# Altium integrated library Motorola Microcontroller 8-Bit.IntLib: 909 symbols (part 12 of 31)
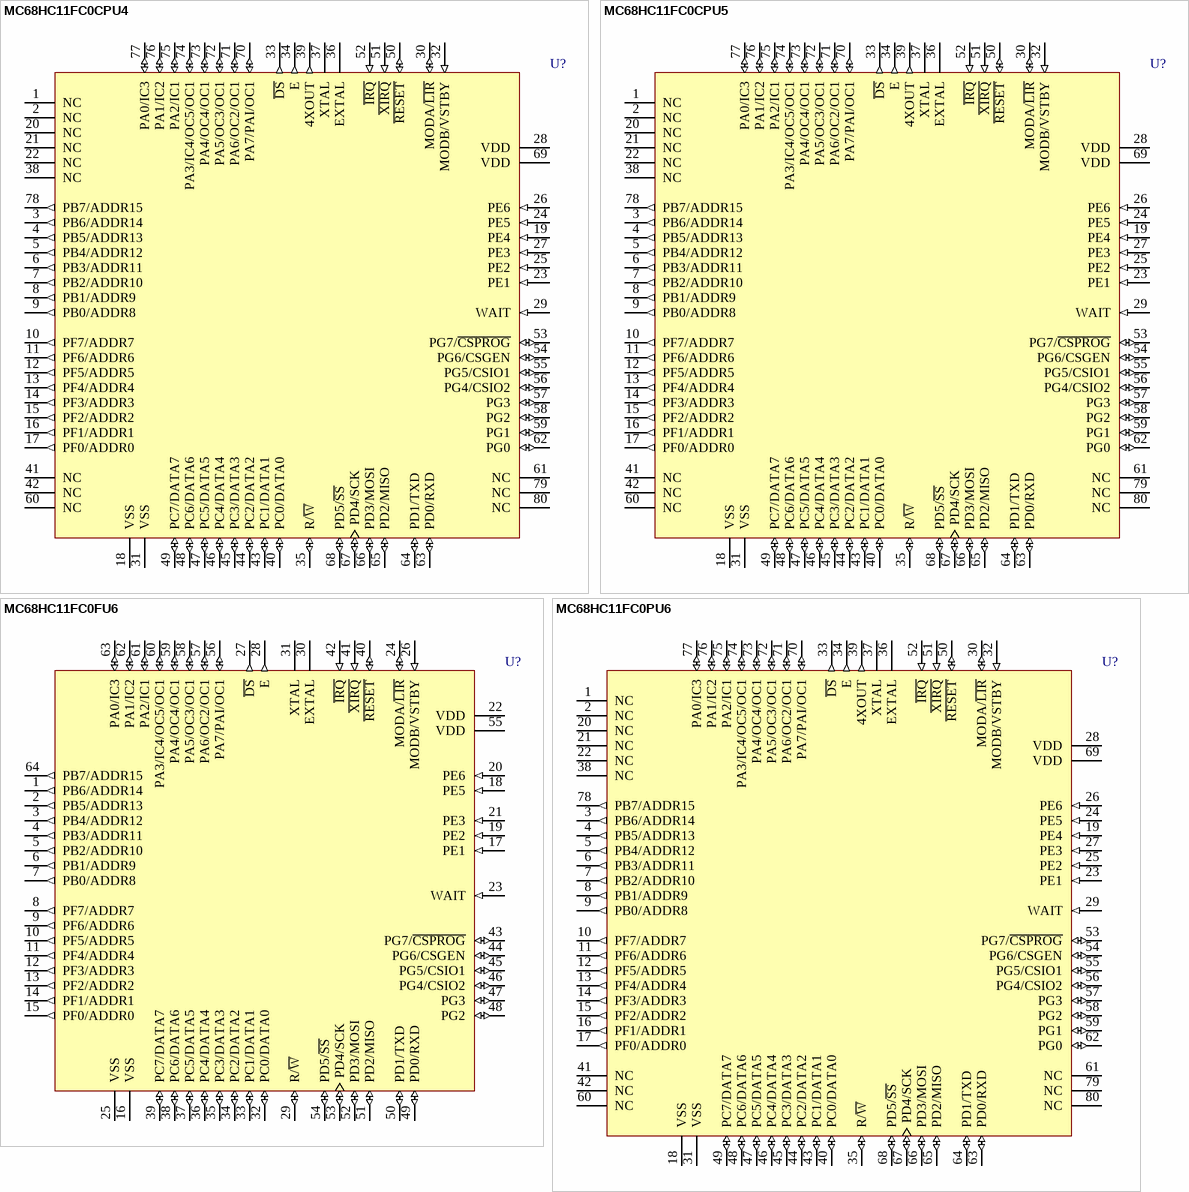
[diagram p124: symbols MC68HC11FC0CPU4 to MC68HC11FC0PU6]

## MC68HC11FC0CPU4
designator U?
8-Bit Microcontroller; Published: 17-Jan-2003; LatestRevisionDate: 13-Apr-2006; LatestRevisionNote: IPC-7351 Footprint Added.; DatasheetVersion: 10-Jan-1997; PackageVersion: 2000; PackageReference: 841B; Publisher: Altium Limited; PackageDescription: 80-Pin Plastic Quad Flat Pack 0.65 mm Pitch; Code_IPC: QFP65P1720X1720-80; ComponentLink1Description: Manufacturer Link; ComponentLink1URL: http://www.freescale.com/
footprint 841B_N (QFP, 80-Leads, Body 14 x 14mm, Pitch 0.65mm, IPC Medium Density)
footprint 841B_L (QFP, 80-Leads, Body 14 x 14mm, Pitch 0.65mm, IPC High Density)
footprint 841B_M (QFP, 80-Leads, Body 14 x 14mm, Pitch 0.65mm, IPC Low Density)
3D model MC68HC11-841B (80-Pin Plastic Quad Flat Pack 0.65 mm Pitch)
pins: 1 NC, 2 NC, 3 PB6/ADDR14 (out), 4 PB5/ADDR13 (out), 5 PB4/ADDR12 (out), 6 PB3/ADDR11 (out), 7 PB2/ADDR10 (out), 8 PB1/ADDR9 (out), 9 PB0/ADDR8 (out), 10 PF7/ADDR7 (out), 11 PF6/ADDR6 (out), 12 PF5/ADDR5 (out), 13 PF4/ADDR4 (out), 14 PF3/ADDR3 (out), 15 PF2/ADDR2 (out), 16 PF1/ADDR1 (out), 17 PF0/ADDR0 (out), 18 VSS (power), 19 PE4 (in), 20 NC, 21 NC, 22 NC, 23 PE1 (in), 24 PE5 (in), 25 PE2 (in), 26 PE6 (in), 27 PE3 (in), 28 VDD (power), 29 WAIT (in), 30 MODA/~{LIR} (io), 31 VSS (power), 32 MODB/VSTBY (in), 33 ~{DS} (out), 34 E (out), 35 R/~{W} (io), 36 EXTAL, 37 XTAL, 38 NC, 39 4XOUT (out), 40 PC0/DATA0 (io), 41 NC, 42 NC, 43 PC1/DATA1 (io), 44 PC2/DATA2 (io), 45 PC3/DATA3 (io), 46 PC4/DATA4 (io), 47 PC5/DATA5 (io), 48 PC6/DATA6 (io), 49 PC7/DATA7 (io), 50 ~{RESET} (io), 51 ~{XIRQ} (in), 52 ~{IRQ} (in), 53 PG7/~{CSPROG} (io), 54 PG6/CSGEN (io), 55 PG5/CSIO1 (io), 56 PG4/CSIO2 (io), 57 PG3 (io), 58 PG2 (io), 59 PG1 (io), 60 NC, 61 NC, 62 PG0 (io), 63 PD0/RXD (io), 64 PD1/TXD (io), 65 PD2/MISO (io), 66 PD3/MOSI (io), 67 PD4/SCK (io), 68 PD5/~{SS} (io), 69 VDD (power), 70 PA7/PAI/OC1 (io), 71 PA6/OC2/OC1 (io), 72 PA5/OC3/OC1 (io), 73 PA4/OC4/OC1 (io), 74 PA3/IC4/OC5/OC1 (io), 75 PA2/IC1 (io), 76 PA1/IC2 (io), 77 PA0/IC3 (io), 78 PB7/ADDR15 (out), 79 NC, 80 NC

## MC68HC11FC0CPU5
designator U?
8-Bit Microcontroller; Published: 17-Jan-2003; LatestRevisionDate: 13-Apr-2006; LatestRevisionNote: IPC-7351 Footprint Added.; DatasheetVersion: 10-Jan-1997; PackageVersion: 2000; PackageReference: 841B; Publisher: Altium Limited; PackageDescription: 80-Pin Plastic Quad Flat Pack 0.65 mm Pitch; Code_IPC: QFP65P1720X1720-80; ComponentLink1Description: Manufacturer Link; ComponentLink1URL: http://www.freescale.com/
footprint 841B_N (QFP, 80-Leads, Body 14 x 14mm, Pitch 0.65mm, IPC Medium Density)
footprint 841B_L (QFP, 80-Leads, Body 14 x 14mm, Pitch 0.65mm, IPC High Density)
footprint 841B_M (QFP, 80-Leads, Body 14 x 14mm, Pitch 0.65mm, IPC Low Density)
3D model MC68HC11-841B (80-Pin Plastic Quad Flat Pack 0.65 mm Pitch)
pins: 1 NC, 2 NC, 3 PB6/ADDR14 (out), 4 PB5/ADDR13 (out), 5 PB4/ADDR12 (out), 6 PB3/ADDR11 (out), 7 PB2/ADDR10 (out), 8 PB1/ADDR9 (out), 9 PB0/ADDR8 (out), 10 PF7/ADDR7 (out), 11 PF6/ADDR6 (out), 12 PF5/ADDR5 (out), 13 PF4/ADDR4 (out), 14 PF3/ADDR3 (out), 15 PF2/ADDR2 (out), 16 PF1/ADDR1 (out), 17 PF0/ADDR0 (out), 18 VSS (power), 19 PE4 (in), 20 NC, 21 NC, 22 NC, 23 PE1 (in), 24 PE5 (in), 25 PE2 (in), 26 PE6 (in), 27 PE3 (in), 28 VDD (power), 29 WAIT (in), 30 MODA/~{LIR} (io), 31 VSS (power), 32 MODB/VSTBY (in), 33 ~{DS} (out), 34 E (out), 35 R/~{W} (io), 36 EXTAL, 37 XTAL, 38 NC, 39 4XOUT (out), 40 PC0/DATA0 (io), 41 NC, 42 NC, 43 PC1/DATA1 (io), 44 PC2/DATA2 (io), 45 PC3/DATA3 (io), 46 PC4/DATA4 (io), 47 PC5/DATA5 (io), 48 PC6/DATA6 (io), 49 PC7/DATA7 (io), 50 ~{RESET} (io), 51 ~{XIRQ} (in), 52 ~{IRQ} (in), 53 PG7/~{CSPROG} (io), 54 PG6/CSGEN (io), 55 PG5/CSIO1 (io), 56 PG4/CSIO2 (io), 57 PG3 (io), 58 PG2 (io), 59 PG1 (io), 60 NC, 61 NC, 62 PG0 (io), 63 PD0/RXD (io), 64 PD1/TXD (io), 65 PD2/MISO (io), 66 PD3/MOSI (io), 67 PD4/SCK (io), 68 PD5/~{SS} (io), 69 VDD (power), 70 PA7/PAI/OC1 (io), 71 PA6/OC2/OC1 (io), 72 PA5/OC3/OC1 (io), 73 PA4/OC4/OC1 (io), 74 PA3/IC4/OC5/OC1 (io), 75 PA2/IC1 (io), 76 PA1/IC2 (io), 77 PA0/IC3 (io), 78 PB7/ADDR15 (out), 79 NC, 80 NC

## MC68HC11FC0FU6
designator U?
8-Bit Microcontroller; Published: 17-Jan-2003; LatestRevisionDate: 13-Apr-2006; LatestRevisionNote: IPC-7351 Footprint Added.; DatasheetVersion: 10-Jan-1997; PackageVersion: rev4, Jul-2002; PackageReference: 840C; Publisher: Altium Limited; PackageDescription: 64-Pin Quad Flat Pack 0.8 mm Pitch; ComponentLink1Description: Manufacturer Link; ComponentLink1URL: http://www.freescale.com/
footprint 840C_N (QFP, 64-Leads, Body 14x14mm, Pitch 0.8mm, IPC Medium Density)
footprint 840C_L (QFP, 64-Leads, Body 14x14mm, Pitch 0.8mm, IPC High Density)
footprint 840C_M (QFP, 64-Leads, Body 14x14mm, Pitch 0.8mm, IPC Low Density)
3D model MC68HC11-840C (64-Pin Quad Flat Pack 0.8 mm Pitch)
pins: 1 PB6/ADDR14 (out), 2 PB5/ADDR13 (out), 3 PB4/ADDR12 (out), 4 PB3/ADDR11 (out), 5 PB2/ADDR10 (out), 6 PB1/ADDR9 (out), 7 PB0/ADDR8 (out), 8 PF7/ADDR7 (out), 9 PF6/ADDR6 (out), 10 PF5/ADDR5 (out), 11 PF4/ADDR4 (out), 12 PF3/ADDR3 (out), 13 PF2/ADDR2 (out), 14 PF1/ADDR1 (out), 15 PF0/ADDR0 (out), 16 VSS (power), 17 PE1 (in), 18 PE5 (in), 19 PE2 (in), 20 PE6 (in), 21 PE3 (in), 22 VDD (power), 23 WAIT (in), 24 MODA/~{LIR} (io), 25 VSS (power), 26 MODB/VSTBY (in), 27 ~{DS} (out), 28 E (out), 29 R/~{W} (io), 30 EXTAL, 31 XTAL, 32 PC0/DATA0 (io), 33 PC1/DATA1 (io), 34 PC2/DATA2 (io), 35 PC3/DATA3 (io), 36 PC4/DATA4 (io), 37 PC5/DATA5 (io), 38 PC6/DATA6 (io), 39 PC7/DATA7 (io), 40 ~{RESET} (io), 41 ~{XIRQ} (in), 42 ~{IRQ} (in), 43 PG7/~{CSPROG} (io), 44 PG6/CSGEN (io), 45 PG5/CSIO1 (io), 46 PG4/CSIO2 (io), 47 PG3 (io), 48 PG2 (io), 49 PD0/RXD (io), 50 PD1/TXD (io), 51 PD2/MISO (io), 52 PD3/MOSI (io), 53 PD4/SCK (io), 54 PD5/~{SS} (io), 55 VDD (power), 56 PA7/PAI/OC1 (io), 57 PA6/OC2/OC1 (io), 58 PA5/OC3/OC1 (io), 59 PA4/OC4/OC1 (io), 60 PA3/IC4/OC5/OC1 (io), 61 PA2/IC1 (io), 62 PA1/IC2 (io), 63 PA0/IC3 (io), 64 PB7/ADDR15 (out)

## MC68HC11FC0PU6
designator U?
8-Bit Microcontroller; Published: 17-Jan-2003; LatestRevisionDate: 13-Apr-2006; LatestRevisionNote: IPC-7351 Footprint Added.; DatasheetVersion: 10-Jan-1997; PackageVersion: 2000; PackageReference: 841B; Publisher: Altium Limited; PackageDescription: 80-Pin Plastic Quad Flat Pack 0.65 mm Pitch; Code_IPC: QFP65P1720X1720-80; ComponentLink1Description: Manufacturer Link; ComponentLink1URL: http://www.freescale.com/
footprint 841B_N (QFP, 80-Leads, Body 14 x 14mm, Pitch 0.65mm, IPC Medium Density)
footprint 841B_L (QFP, 80-Leads, Body 14 x 14mm, Pitch 0.65mm, IPC High Density)
footprint 841B_M (QFP, 80-Leads, Body 14 x 14mm, Pitch 0.65mm, IPC Low Density)
3D model MC68HC11-841B (80-Pin Plastic Quad Flat Pack 0.65 mm Pitch)
pins: 1 NC, 2 NC, 3 PB6/ADDR14 (out), 4 PB5/ADDR13 (out), 5 PB4/ADDR12 (out), 6 PB3/ADDR11 (out), 7 PB2/ADDR10 (out), 8 PB1/ADDR9 (out), 9 PB0/ADDR8 (out), 10 PF7/ADDR7 (out), 11 PF6/ADDR6 (out), 12 PF5/ADDR5 (out), 13 PF4/ADDR4 (out), 14 PF3/ADDR3 (out), 15 PF2/ADDR2 (out), 16 PF1/ADDR1 (out), 17 PF0/ADDR0 (out), 18 VSS (power), 19 PE4 (in), 20 NC, 21 NC, 22 NC, 23 PE1 (in), 24 PE5 (in), 25 PE2 (in), 26 PE6 (in), 27 PE3 (in), 28 VDD (power), 29 WAIT (in), 30 MODA/~{LIR} (io), 31 VSS (power), 32 MODB/VSTBY (in), 33 ~{DS} (out), 34 E (out), 35 R/~{W} (io), 36 EXTAL, 37 XTAL, 38 NC, 39 4XOUT (out), 40 PC0/DATA0 (io), 41 NC, 42 NC, 43 PC1/DATA1 (io), 44 PC2/DATA2 (io), 45 PC3/DATA3 (io), 46 PC4/DATA4 (io), 47 PC5/DATA5 (io), 48 PC6/DATA6 (io), 49 PC7/DATA7 (io), 50 ~{RESET} (io), 51 ~{XIRQ} (in), 52 ~{IRQ} (in), 53 PG7/~{CSPROG} (io), 54 PG6/CSGEN (io), 55 PG5/CSIO1 (io), 56 PG4/CSIO2 (io), 57 PG3 (io), 58 PG2 (io), 59 PG1 (io), 60 NC, 61 NC, 62 PG0 (io), 63 PD0/RXD (io), 64 PD1/TXD (io), 65 PD2/MISO (io), 66 PD3/MOSI (io), 67 PD4/SCK (io), 68 PD5/~{SS} (io), 69 VDD (power), 70 PA7/PAI/OC1 (io), 71 PA6/OC2/OC1 (io), 72 PA5/OC3/OC1 (io), 73 PA4/OC4/OC1 (io), 74 PA3/IC4/OC5/OC1 (io), 75 PA2/IC1 (io), 76 PA1/IC2 (io), 77 PA0/IC3 (io), 78 PB7/ADDR15 (out), 79 NC, 80 NC

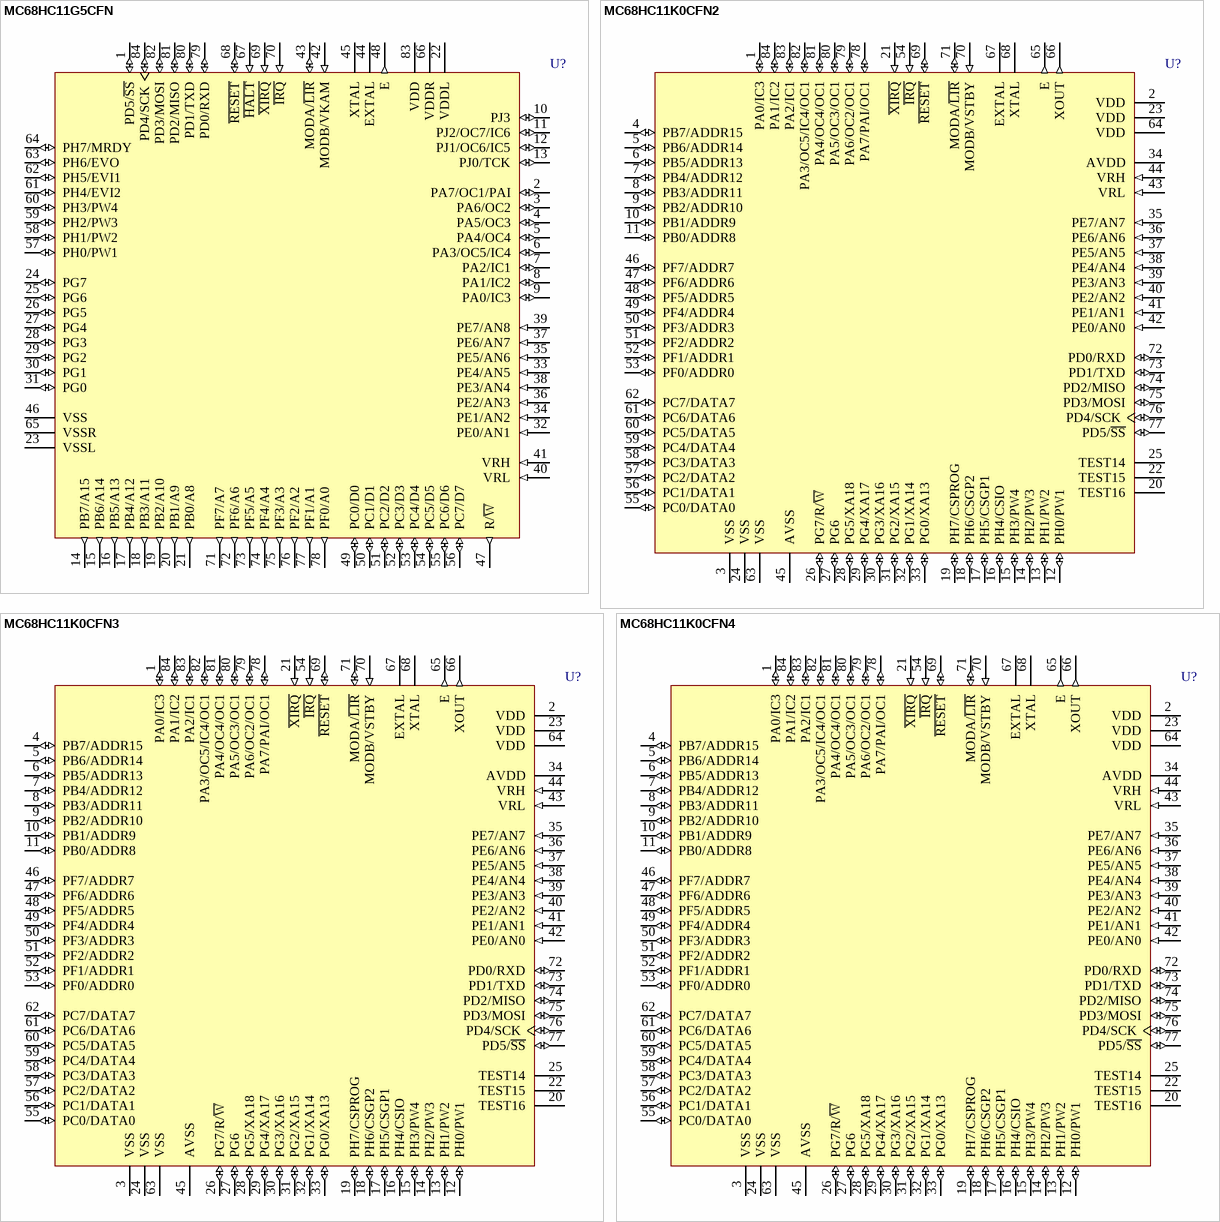
[diagram p36: symbols MC68HC11G5CFN to MC68HC11K0CFN4]

## MC68HC11G5CFN
designator U?
8-Bit Microcontroller; Published: 17-Jan-2003; LatestRevisionDate: 13-Apr-2006; LatestRevisionNote: IPC-7351 Footprint Added.; DatasheetVersion: 11-Apr-1997; PackageVersion: 1996; PackageReference: 780-01; Publisher: Altium Limited; PackageDescription: 84-Pin Leaded Chip Carrier 1.27 mm Pitch; Code_IPC: PLCC-84; ComponentLink1Description: Manufacturer Link; ComponentLink1URL: http://www.freescale.com/
footprint 780-01_N (Leaded Chip Carrier, 84-Leads, Body 29.3x29.3mm, Pitch 1.27mm, IPC Medium Density)
footprint 780-01_L (Leaded Chip Carrier, 84-Leads, Body 29.3x29.3mm, Pitch 1.27mm, IPC High Density)
footprint 780-01_M (Leaded Chip Carrier, 84-Leads, Body 29.3x29.3mm, Pitch 1.27mm, IPC Low Density)
3D model MC68HC11-780-01 (84-Pin Leaded Chip Carrier 1.27 mm Pitch)
pins: 1 PD5/~{SS} (io), 2 PA7/OC1/PAI (io), 3 PA6/OC2 (io), 4 PA5/OC3 (io), 5 PA4/OC4 (io), 6 PA3/OC5/IC4 (io), 7 PA2/IC1 (io), 8 PA1/IC2 (io), 9 PA0/IC3 (io), 10 PJ3 (io), 11 PJ2/OC7/IC6 (io), 12 PJ1/OC6/IC5 (io), 13 PJ0/TCK (io), 14 PB7/A15 (out), 15 PB6/A14 (out), 16 PB5/A13 (out), 17 PB4/A12 (out), 18 PB3/A11 (out), 19 PB2/A10 (out), 20 PB1/A9 (out), 21 PB0/A8 (out), 22 VDDL (power), 23 VSSL (power), 24 PG7 (io), 25 PG6 (io), 26 PG5 (io), 27 PG4 (io), 28 PG3 (io), 29 PG2 (io), 30 PG1 (io), 31 PG0 (io), 32 PE0/AN1 (in), 33 PE4/AN5 (in), 34 PE1/AN2 (in), 35 PE5/AN6 (in), 36 PE2/AN3 (in), 37 PE6/AN7 (in), 38 PE3/AN4 (in), 39 PE7/AN8 (in), 40 VRL (in), 41 VRH (in), 42 MODB/VKAM (in), 43 MODA/~{LIR} (io), 44 EXTAL, 45 XTAL, 46 VSS (power), 47 R/~{W} (out), 48 E (out), 49 PC0/D0 (io), 50 PC1/D1 (io), 51 PC2/D2 (io), 52 PC3/D3 (io), 53 PC4/D4 (io), 54 PC5/D5 (io), 55 PC6/D6 (io), 56 PC7/D7 (io), 57 PH0/PW1 (io), 58 PH1/PW2 (io), 59 PH2/PW3 (io), 60 PH3/PW4 (io), 61 PH4/EVI2 (io), 62 PH5/EVI1 (io), 63 PH6/EVO (io), 64 PH7/MRDY (io), 65 VSSR (power), 66 VDDR (power), 67 ~{HALT} (in), 68 ~{RESET} (io), 69 ~{XIRQ} (in), 70 ~{IRQ} (in), 71 PF7/A7 (out), 72 PF6/A6 (out), 73 PF5/A5 (out), 74 PF4/A4 (out), 75 PF3/A3 (out), 76 PF2/A2 (out), 77 PF1/A1 (out), 78 PF0/A0 (out), 79 PD0/RXD (io), 80 PD1/TXD (io), 81 PD2/MISO (io), 82 PD3/MOSI (io), 83 VDD (power), 84 PD4/SCK (io)

## MC68HC11K0CFN2
designator U?
8-Bit Microcontroller; Note: Pins 20, 22 and 25 are used only during factory testing. Do not connect to external circuitry.; Published: 17-Jan-2003; LatestRevisionDate: 13-Apr-2006; LatestRevisionNote: IPC-7351 Footprint Added.; DatasheetVersion: Nov-2001; PackageVersion: 2001; PackageReference: 780; Publisher: Altium Limited; PackageDescription: 84-Pin Plastic Leaded Chip Carrier 1.27 mm Pitch; Code_IPC: PLCC-84; ComponentLink1Description: Manufacturer Link; ComponentLink1URL: http://www.freescale.com/
footprint 780_N (Leaded Chip Carrier, 84-Leads, Body 29.3x29.3mm, Pitch 1.27mm, IPC Medium Density)
footprint 780_L (Leaded Chip Carrier, 84-Leads, Body 29.3x29.3mm, Pitch 1.27mm, IPC High Density)
footprint 780_M (Leaded Chip Carrier, 84-Leads, Body 29.3x29.3mm, Pitch 1.27mm, IPC Low Density)
3D model MC68HC11-780 (84-Pin Plastic Leaded Chip Carrier 1.27 mm Pitch)
pins: 1 PA0/IC3 (io), 2 VDD (power), 3 VSS (power), 4 PB7/ADDR15 (io), 5 PB6/ADDR14 (io), 6 PB5/ADDR13 (io), 7 PB4/ADDR12 (io), 8 PB3/ADDR11 (io), 9 PB2/ADDR10 (io), 10 PB1/ADDR9 (io), 11 PB0/ADDR8 (io), 12 PH0/PW1 (io), 13 PH1/PW2 (io), 14 PH2/PW3 (io), 15 PH3/PW4 (io), 16 PH4/CSIO (io), 17 PH5/CSGP1 (io), 18 PH6/CSGP2 (io), 19 PH7/CSPROG (io), 20 TEST16, 21 ~{XIRQ} (in), 22 TEST15, 23 VDD (power), 24 VSS (power), 25 TEST14, 26 PG7/R/~{W} (io), 27 PG6 (io), 28 PG5/XA18 (io), 29 PG4/XA17 (io), 30 PG3/XA16 (io), 31 PG2/XA15 (io), 32 PG1/XA14 (io), 33 PG0/XA13 (io), 34 AVDD (power), 35 PE7/AN7 (in), 36 PE6/AN6 (in), 37 PE5/AN5 (in), 38 PE4/AN4 (in), 39 PE3/AN3 (in), 40 PE2/AN2 (in), 41 PE1/AN1 (in), 42 PE0/AN0 (in), 43 VRL (in), 44 VRH (in), 45 AVSS (power), 46 PF7/ADDR7 (io), 47 PF6/ADDR6 (io), 48 PF5/ADDR5 (io), 49 PF4/ADDR4 (io), 50 PF3/ADDR3 (io), 51 PF2/ADDR2 (io), 52 PF1/ADDR1 (io), 53 PF0/ADDR0 (io), 54 ~{IRQ} (in), 55 PC0/DATA0 (io), 56 PC1/DATA1 (io), 57 PC2/DATA2 (io), 58 PC3/DATA3 (io), 59 PC4/DATA4 (io), 60 PC5/DATA5 (io), 61 PC6/DATA6 (io), 62 PC7/DATA7 (io), 63 VSS (power), 64 VDD (power), 65 E (out), 66 XOUT (out), 67 EXTAL, 68 XTAL, 69 ~{RESET} (io), 70 MODB/VSTBY (in), 71 MODA/~{LIR} (io), 72 PD0/RXD (io), 73 PD1/TXD (io), 74 PD2/MISO (io), 75 PD3/MOSI (io), 76 PD4/SCK (io), 77 PD5/~{SS} (io), 78 PA7/PAI/OC1 (io), 79 PA6/OC2/OC1 (io), 80 PA5/OC3/OC1 (io), 81 PA4/OC4/OC1 (io), 82 PA3/OC5/IC4/OC1 (io), 83 PA2/IC1 (io), 84 PA1/IC2 (io)

## MC68HC11K0CFN3
designator U?
8-Bit Microcontroller; Note: Pins 20, 22 and 25 are used only during factory testing. Do not connect to external circuitry.; Published: 17-Jan-2003; LatestRevisionDate: 13-Apr-2006; LatestRevisionNote: IPC-7351 Footprint Added.; DatasheetVersion: Nov-2001; PackageVersion: 2001; PackageReference: 780; Publisher: Altium Limited; PackageDescription: 84-Pin Plastic Leaded Chip Carrier 1.27 mm Pitch; Code_IPC: PLCC-84; ComponentLink1Description: Manufacturer Link; ComponentLink1URL: http://www.freescale.com/
footprint 780_N (Leaded Chip Carrier, 84-Leads, Body 29.3x29.3mm, Pitch 1.27mm, IPC Medium Density)
footprint 780_L (Leaded Chip Carrier, 84-Leads, Body 29.3x29.3mm, Pitch 1.27mm, IPC High Density)
footprint 780_M (Leaded Chip Carrier, 84-Leads, Body 29.3x29.3mm, Pitch 1.27mm, IPC Low Density)
3D model MC68HC11-780 (84-Pin Plastic Leaded Chip Carrier 1.27 mm Pitch)
pins: 1 PA0/IC3 (io), 2 VDD (power), 3 VSS (power), 4 PB7/ADDR15 (io), 5 PB6/ADDR14 (io), 6 PB5/ADDR13 (io), 7 PB4/ADDR12 (io), 8 PB3/ADDR11 (io), 9 PB2/ADDR10 (io), 10 PB1/ADDR9 (io), 11 PB0/ADDR8 (io), 12 PH0/PW1 (io), 13 PH1/PW2 (io), 14 PH2/PW3 (io), 15 PH3/PW4 (io), 16 PH4/CSIO (io), 17 PH5/CSGP1 (io), 18 PH6/CSGP2 (io), 19 PH7/CSPROG (io), 20 TEST16, 21 ~{XIRQ} (in), 22 TEST15, 23 VDD (power), 24 VSS (power), 25 TEST14, 26 PG7/R/~{W} (io), 27 PG6 (io), 28 PG5/XA18 (io), 29 PG4/XA17 (io), 30 PG3/XA16 (io), 31 PG2/XA15 (io), 32 PG1/XA14 (io), 33 PG0/XA13 (io), 34 AVDD (power), 35 PE7/AN7 (in), 36 PE6/AN6 (in), 37 PE5/AN5 (in), 38 PE4/AN4 (in), 39 PE3/AN3 (in), 40 PE2/AN2 (in), 41 PE1/AN1 (in), 42 PE0/AN0 (in), 43 VRL (in), 44 VRH (in), 45 AVSS (power), 46 PF7/ADDR7 (io), 47 PF6/ADDR6 (io), 48 PF5/ADDR5 (io), 49 PF4/ADDR4 (io), 50 PF3/ADDR3 (io), 51 PF2/ADDR2 (io), 52 PF1/ADDR1 (io), 53 PF0/ADDR0 (io), 54 ~{IRQ} (in), 55 PC0/DATA0 (io), 56 PC1/DATA1 (io), 57 PC2/DATA2 (io), 58 PC3/DATA3 (io), 59 PC4/DATA4 (io), 60 PC5/DATA5 (io), 61 PC6/DATA6 (io), 62 PC7/DATA7 (io), 63 VSS (power), 64 VDD (power), 65 E (out), 66 XOUT (out), 67 EXTAL, 68 XTAL, 69 ~{RESET} (io), 70 MODB/VSTBY (in), 71 MODA/~{LIR} (io), 72 PD0/RXD (io), 73 PD1/TXD (io), 74 PD2/MISO (io), 75 PD3/MOSI (io), 76 PD4/SCK (io), 77 PD5/~{SS} (io), 78 PA7/PAI/OC1 (io), 79 PA6/OC2/OC1 (io), 80 PA5/OC3/OC1 (io), 81 PA4/OC4/OC1 (io), 82 PA3/OC5/IC4/OC1 (io), 83 PA2/IC1 (io), 84 PA1/IC2 (io)

## MC68HC11K0CFN4
designator U?
8-Bit Microcontroller; Note: Pins 20, 22 and 25 are used only during factory testing. Do not connect to external circuitry.; Published: 17-Jan-2003; LatestRevisionDate: 13-Apr-2006; LatestRevisionNote: IPC-7351 Footprint Added.; DatasheetVersion: Nov-2001; PackageVersion: 2001; PackageReference: 780; Publisher: Altium Limited; PackageDescription: 84-Pin Plastic Leaded Chip Carrier 1.27 mm Pitch; Code_IPC: PLCC-84; ComponentLink1Description: Manufacturer Link; ComponentLink1URL: http://www.freescale.com/
footprint 780_N (Leaded Chip Carrier, 84-Leads, Body 29.3x29.3mm, Pitch 1.27mm, IPC Medium Density)
footprint 780_L (Leaded Chip Carrier, 84-Leads, Body 29.3x29.3mm, Pitch 1.27mm, IPC High Density)
footprint 780_M (Leaded Chip Carrier, 84-Leads, Body 29.3x29.3mm, Pitch 1.27mm, IPC Low Density)
3D model MC68HC11-780 (84-Pin Plastic Leaded Chip Carrier 1.27 mm Pitch)
pins: 1 PA0/IC3 (io), 2 VDD (power), 3 VSS (power), 4 PB7/ADDR15 (io), 5 PB6/ADDR14 (io), 6 PB5/ADDR13 (io), 7 PB4/ADDR12 (io), 8 PB3/ADDR11 (io), 9 PB2/ADDR10 (io), 10 PB1/ADDR9 (io), 11 PB0/ADDR8 (io), 12 PH0/PW1 (io), 13 PH1/PW2 (io), 14 PH2/PW3 (io), 15 PH3/PW4 (io), 16 PH4/CSIO (io), 17 PH5/CSGP1 (io), 18 PH6/CSGP2 (io), 19 PH7/CSPROG (io), 20 TEST16, 21 ~{XIRQ} (in), 22 TEST15, 23 VDD (power), 24 VSS (power), 25 TEST14, 26 PG7/R/~{W} (io), 27 PG6 (io), 28 PG5/XA18 (io), 29 PG4/XA17 (io), 30 PG3/XA16 (io), 31 PG2/XA15 (io), 32 PG1/XA14 (io), 33 PG0/XA13 (io), 34 AVDD (power), 35 PE7/AN7 (in), 36 PE6/AN6 (in), 37 PE5/AN5 (in), 38 PE4/AN4 (in), 39 PE3/AN3 (in), 40 PE2/AN2 (in), 41 PE1/AN1 (in), 42 PE0/AN0 (in), 43 VRL (in), 44 VRH (in), 45 AVSS (power), 46 PF7/ADDR7 (io), 47 PF6/ADDR6 (io), 48 PF5/ADDR5 (io), 49 PF4/ADDR4 (io), 50 PF3/ADDR3 (io), 51 PF2/ADDR2 (io), 52 PF1/ADDR1 (io), 53 PF0/ADDR0 (io), 54 ~{IRQ} (in), 55 PC0/DATA0 (io), 56 PC1/DATA1 (io), 57 PC2/DATA2 (io), 58 PC3/DATA3 (io), 59 PC4/DATA4 (io), 60 PC5/DATA5 (io), 61 PC6/DATA6 (io), 62 PC7/DATA7 (io), 63 VSS (power), 64 VDD (power), 65 E (out), 66 XOUT (out), 67 EXTAL, 68 XTAL, 69 ~{RESET} (io), 70 MODB/VSTBY (in), 71 MODA/~{LIR} (io), 72 PD0/RXD (io), 73 PD1/TXD (io), 74 PD2/MISO (io), 75 PD3/MOSI (io), 76 PD4/SCK (io), 77 PD5/~{SS} (io), 78 PA7/PAI/OC1 (io), 79 PA6/OC2/OC1 (io), 80 PA5/OC3/OC1 (io), 81 PA4/OC4/OC1 (io), 82 PA3/OC5/IC4/OC1 (io), 83 PA2/IC1 (io), 84 PA1/IC2 (io)

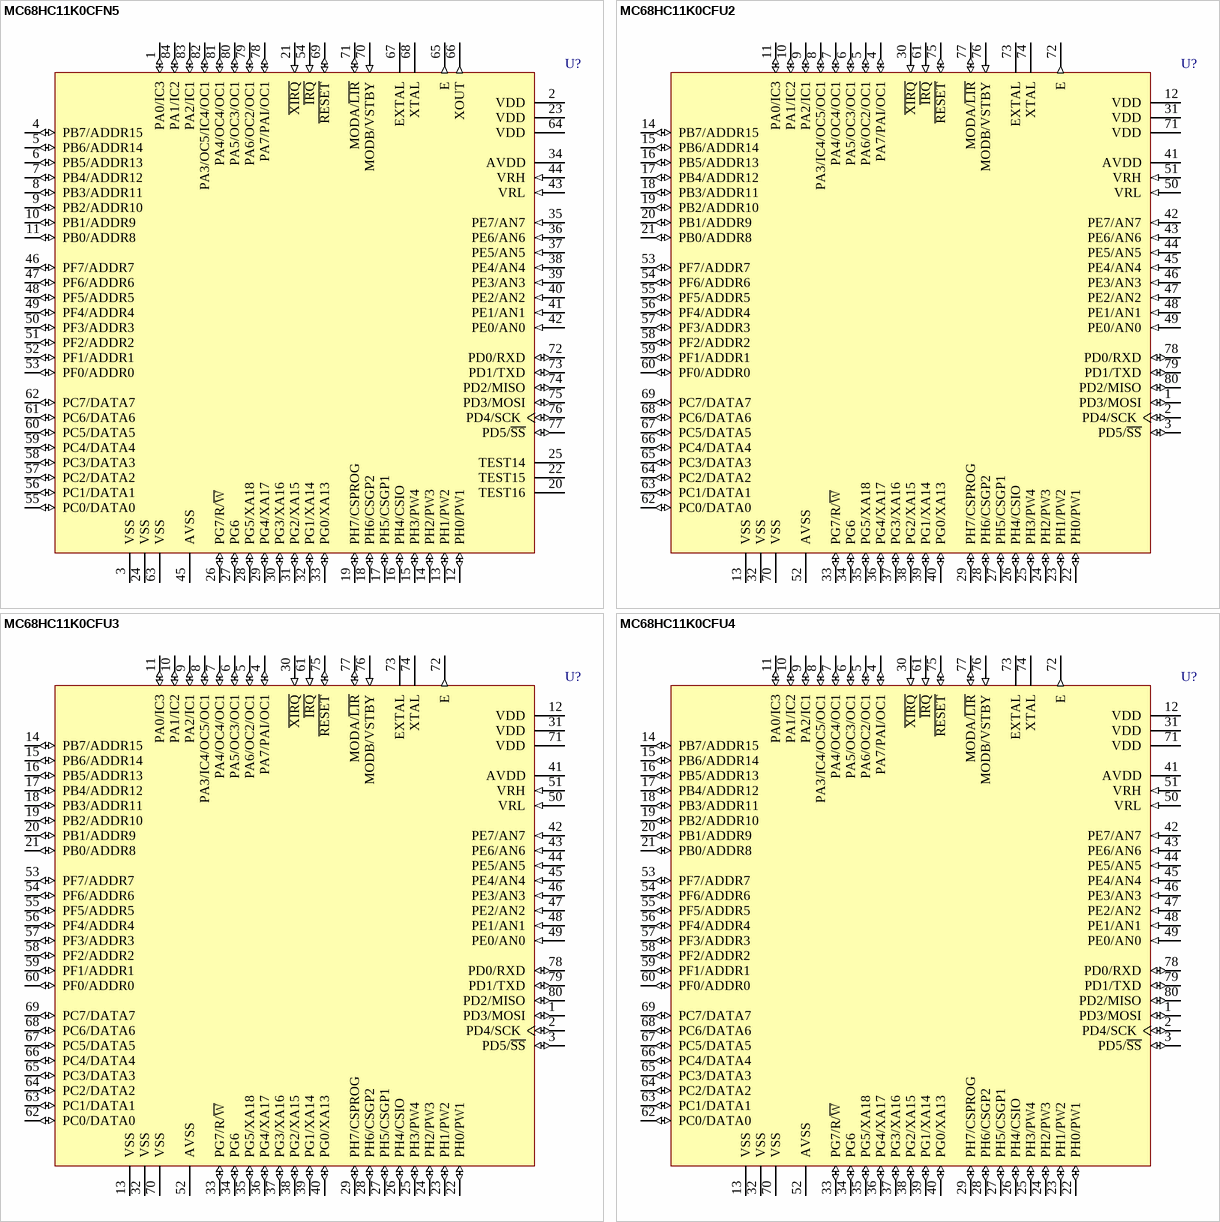
[diagram p37: symbols MC68HC11K0CFN5 to MC68HC11K0CFU4]

## MC68HC11K0CFN5
designator U?
8-Bit Microcontroller; Note: Pins 20, 22 and 25 are used only during factory testing. Do not connect to external circuitry.; Published: 17-Jan-2003; LatestRevisionDate: 13-Apr-2006; LatestRevisionNote: IPC-7351 Footprint Added.; DatasheetVersion: Nov-2001; PackageVersion: 2001; PackageReference: 780; Publisher: Altium Limited; PackageDescription: 84-Pin Plastic Leaded Chip Carrier 1.27 mm Pitch; Code_IPC: PLCC-84; ComponentLink1Description: Manufacturer Link; ComponentLink1URL: http://www.freescale.com/
footprint 780_N (Leaded Chip Carrier, 84-Leads, Body 29.3x29.3mm, Pitch 1.27mm, IPC Medium Density)
footprint 780_L (Leaded Chip Carrier, 84-Leads, Body 29.3x29.3mm, Pitch 1.27mm, IPC High Density)
footprint 780_M (Leaded Chip Carrier, 84-Leads, Body 29.3x29.3mm, Pitch 1.27mm, IPC Low Density)
3D model MC68HC11-780 (84-Pin Plastic Leaded Chip Carrier 1.27 mm Pitch)
pins: 1 PA0/IC3 (io), 2 VDD (power), 3 VSS (power), 4 PB7/ADDR15 (io), 5 PB6/ADDR14 (io), 6 PB5/ADDR13 (io), 7 PB4/ADDR12 (io), 8 PB3/ADDR11 (io), 9 PB2/ADDR10 (io), 10 PB1/ADDR9 (io), 11 PB0/ADDR8 (io), 12 PH0/PW1 (io), 13 PH1/PW2 (io), 14 PH2/PW3 (io), 15 PH3/PW4 (io), 16 PH4/CSIO (io), 17 PH5/CSGP1 (io), 18 PH6/CSGP2 (io), 19 PH7/CSPROG (io), 20 TEST16, 21 ~{XIRQ} (in), 22 TEST15, 23 VDD (power), 24 VSS (power), 25 TEST14, 26 PG7/R/~{W} (io), 27 PG6 (io), 28 PG5/XA18 (io), 29 PG4/XA17 (io), 30 PG3/XA16 (io), 31 PG2/XA15 (io), 32 PG1/XA14 (io), 33 PG0/XA13 (io), 34 AVDD (power), 35 PE7/AN7 (in), 36 PE6/AN6 (in), 37 PE5/AN5 (in), 38 PE4/AN4 (in), 39 PE3/AN3 (in), 40 PE2/AN2 (in), 41 PE1/AN1 (in), 42 PE0/AN0 (in), 43 VRL (in), 44 VRH (in), 45 AVSS (power), 46 PF7/ADDR7 (io), 47 PF6/ADDR6 (io), 48 PF5/ADDR5 (io), 49 PF4/ADDR4 (io), 50 PF3/ADDR3 (io), 51 PF2/ADDR2 (io), 52 PF1/ADDR1 (io), 53 PF0/ADDR0 (io), 54 ~{IRQ} (in), 55 PC0/DATA0 (io), 56 PC1/DATA1 (io), 57 PC2/DATA2 (io), 58 PC3/DATA3 (io), 59 PC4/DATA4 (io), 60 PC5/DATA5 (io), 61 PC6/DATA6 (io), 62 PC7/DATA7 (io), 63 VSS (power), 64 VDD (power), 65 E (out), 66 XOUT (out), 67 EXTAL, 68 XTAL, 69 ~{RESET} (io), 70 MODB/VSTBY (in), 71 MODA/~{LIR} (io), 72 PD0/RXD (io), 73 PD1/TXD (io), 74 PD2/MISO (io), 75 PD3/MOSI (io), 76 PD4/SCK (io), 77 PD5/~{SS} (io), 78 PA7/PAI/OC1 (io), 79 PA6/OC2/OC1 (io), 80 PA5/OC3/OC1 (io), 81 PA4/OC4/OC1 (io), 82 PA3/OC5/IC4/OC1 (io), 83 PA2/IC1 (io), 84 PA1/IC2 (io)

## MC68HC11K0CFU2
designator U?
8-Bit Microcontroller; Published: 17-Jan-2003; LatestRevisionDate: 13-Apr-2006; LatestRevisionNote: IPC-7351 Footprint Added.; DatasheetVersion: Nov-2001; PackageVersion: 2000; PackageReference: 841B; Publisher: Altium Limited; PackageDescription: 80-Pin Plastic Quad Flat Pack 0.65 mm Pitch; Code_IPC: QFP65P1720X1720-80; ComponentLink1Description: Manufacturer Link; ComponentLink1URL: http://www.freescale.com/
footprint 841B_N (QFP, 80-Leads, Body 14 x 14mm, Pitch 0.65mm, IPC Medium Density)
footprint 841B_L (QFP, 80-Leads, Body 14 x 14mm, Pitch 0.65mm, IPC High Density)
footprint 841B_M (QFP, 80-Leads, Body 14 x 14mm, Pitch 0.65mm, IPC Low Density)
3D model MC68HC11-841B (80-Pin Plastic Quad Flat Pack 0.65 mm Pitch)
pins: 1 PD3/MOSI (io), 2 PD4/SCK (io), 3 PD5/~{SS} (io), 4 PA7/PAI/OC1 (io), 5 PA6/OC2/OC1 (io), 6 PA5/OC3/OC1 (io), 7 PA4/OC4/OC1 (io), 8 PA3/IC4/OC5/OC1 (io), 9 PA2/IC1 (io), 10 PA1/IC2 (io), 11 PA0/IC3 (io), 12 VDD (power), 13 VSS (power), 14 PB7/ADDR15 (io), 15 PB6/ADDR14 (io), 16 PB5/ADDR13 (io), 17 PB4/ADDR12 (io), 18 PB3/ADDR11 (io), 19 PB2/ADDR10 (io), 20 PB1/ADDR9 (io), 21 PB0/ADDR8 (io), 22 PH0/PW1 (io), 23 PH1/PW2 (io), 24 PH2/PW3 (io), 25 PH3/PW4 (io), 26 PH4/CSIO (io), 27 PH5/CSGP1 (io), 28 PH6/CSGP2 (io), 29 PH7/CSPROG (io), 30 ~{XIRQ} (in), 31 VDD (power), 32 VSS (power), 33 PG7/R/~{W} (io), 34 PG6 (io), 35 PG5/XA18 (io), 36 PG4/XA17 (io), 37 PG3/XA16 (io), 38 PG2/XA15 (io), 39 PG1/XA14 (io), 40 PG0/XA13 (io), 41 AVDD (power), 42 PE7/AN7 (in), 43 PE6/AN6 (in), 44 PE5/AN5 (in), 45 PE4/AN4 (in), 46 PE3/AN3 (in), 47 PE2/AN2 (in), 48 PE1/AN1 (in), 49 PE0/AN0 (in), 50 VRL (in), 51 VRH (in), 52 AVSS (power), 53 PF7/ADDR7 (io), 54 PF6/ADDR6 (io), 55 PF5/ADDR5 (io), 56 PF4/ADDR4 (io), 57 PF3/ADDR3 (io), 58 PF2/ADDR2 (io), 59 PF1/ADDR1 (io), 60 PF0/ADDR0 (io), 61 ~{IRQ} (in), 62 PC0/DATA0 (io), 63 PC1/DATA1 (io), 64 PC2/DATA2 (io), 65 PC3/DATA3 (io), 66 PC4/DATA4 (io), 67 PC5/DATA5 (io), 68 PC6/DATA6 (io), 69 PC7/DATA7 (io), 70 VSS (power), 71 VDD (power), 72 E (out), 73 EXTAL, 74 XTAL, 75 ~{RESET} (io), 76 MODB/VSTBY (in), 77 MODA/~{LIR} (io), 78 PD0/RXD (io), 79 PD1/TXD (io), 80 PD2/MISO (io)

## MC68HC11K0CFU3
designator U?
8-Bit Microcontroller; Published: 17-Jan-2003; LatestRevisionDate: 13-Apr-2006; LatestRevisionNote: IPC-7351 Footprint Added.; DatasheetVersion: Nov-2001; PackageVersion: 2000; PackageReference: 841B; Publisher: Altium Limited; PackageDescription: 80-Pin Plastic Quad Flat Pack 0.65 mm Pitch; Code_IPC: QFP65P1720X1720-80; ComponentLink1Description: Manufacturer Link; ComponentLink1URL: http://www.freescale.com/
footprint 841B_N (QFP, 80-Leads, Body 14 x 14mm, Pitch 0.65mm, IPC Medium Density)
footprint 841B_L (QFP, 80-Leads, Body 14 x 14mm, Pitch 0.65mm, IPC High Density)
footprint 841B_M (QFP, 80-Leads, Body 14 x 14mm, Pitch 0.65mm, IPC Low Density)
3D model MC68HC11-841B (80-Pin Plastic Quad Flat Pack 0.65 mm Pitch)
pins: 1 PD3/MOSI (io), 2 PD4/SCK (io), 3 PD5/~{SS} (io), 4 PA7/PAI/OC1 (io), 5 PA6/OC2/OC1 (io), 6 PA5/OC3/OC1 (io), 7 PA4/OC4/OC1 (io), 8 PA3/IC4/OC5/OC1 (io), 9 PA2/IC1 (io), 10 PA1/IC2 (io), 11 PA0/IC3 (io), 12 VDD (power), 13 VSS (power), 14 PB7/ADDR15 (io), 15 PB6/ADDR14 (io), 16 PB5/ADDR13 (io), 17 PB4/ADDR12 (io), 18 PB3/ADDR11 (io), 19 PB2/ADDR10 (io), 20 PB1/ADDR9 (io), 21 PB0/ADDR8 (io), 22 PH0/PW1 (io), 23 PH1/PW2 (io), 24 PH2/PW3 (io), 25 PH3/PW4 (io), 26 PH4/CSIO (io), 27 PH5/CSGP1 (io), 28 PH6/CSGP2 (io), 29 PH7/CSPROG (io), 30 ~{XIRQ} (in), 31 VDD (power), 32 VSS (power), 33 PG7/R/~{W} (io), 34 PG6 (io), 35 PG5/XA18 (io), 36 PG4/XA17 (io), 37 PG3/XA16 (io), 38 PG2/XA15 (io), 39 PG1/XA14 (io), 40 PG0/XA13 (io), 41 AVDD (power), 42 PE7/AN7 (in), 43 PE6/AN6 (in), 44 PE5/AN5 (in), 45 PE4/AN4 (in), 46 PE3/AN3 (in), 47 PE2/AN2 (in), 48 PE1/AN1 (in), 49 PE0/AN0 (in), 50 VRL (in), 51 VRH (in), 52 AVSS (power), 53 PF7/ADDR7 (io), 54 PF6/ADDR6 (io), 55 PF5/ADDR5 (io), 56 PF4/ADDR4 (io), 57 PF3/ADDR3 (io), 58 PF2/ADDR2 (io), 59 PF1/ADDR1 (io), 60 PF0/ADDR0 (io), 61 ~{IRQ} (in), 62 PC0/DATA0 (io), 63 PC1/DATA1 (io), 64 PC2/DATA2 (io), 65 PC3/DATA3 (io), 66 PC4/DATA4 (io), 67 PC5/DATA5 (io), 68 PC6/DATA6 (io), 69 PC7/DATA7 (io), 70 VSS (power), 71 VDD (power), 72 E (out), 73 EXTAL, 74 XTAL, 75 ~{RESET} (io), 76 MODB/VSTBY (in), 77 MODA/~{LIR} (io), 78 PD0/RXD (io), 79 PD1/TXD (io), 80 PD2/MISO (io)

## MC68HC11K0CFU4
designator U?
8-Bit Microcontroller; Published: 17-Jan-2003; LatestRevisionDate: 13-Apr-2006; LatestRevisionNote: IPC-7351 Footprint Added.; DatasheetVersion: Nov-2001; PackageVersion: 2000; PackageReference: 841B; Publisher: Altium Limited; PackageDescription: 80-Pin Plastic Quad Flat Pack 0.65 mm Pitch; Code_IPC: QFP65P1720X1720-80; ComponentLink1Description: Manufacturer Link; ComponentLink1URL: http://www.freescale.com/
footprint 841B_N (QFP, 80-Leads, Body 14 x 14mm, Pitch 0.65mm, IPC Medium Density)
footprint 841B_L (QFP, 80-Leads, Body 14 x 14mm, Pitch 0.65mm, IPC High Density)
footprint 841B_M (QFP, 80-Leads, Body 14 x 14mm, Pitch 0.65mm, IPC Low Density)
3D model MC68HC11-841B (80-Pin Plastic Quad Flat Pack 0.65 mm Pitch)
pins: 1 PD3/MOSI (io), 2 PD4/SCK (io), 3 PD5/~{SS} (io), 4 PA7/PAI/OC1 (io), 5 PA6/OC2/OC1 (io), 6 PA5/OC3/OC1 (io), 7 PA4/OC4/OC1 (io), 8 PA3/IC4/OC5/OC1 (io), 9 PA2/IC1 (io), 10 PA1/IC2 (io), 11 PA0/IC3 (io), 12 VDD (power), 13 VSS (power), 14 PB7/ADDR15 (io), 15 PB6/ADDR14 (io), 16 PB5/ADDR13 (io), 17 PB4/ADDR12 (io), 18 PB3/ADDR11 (io), 19 PB2/ADDR10 (io), 20 PB1/ADDR9 (io), 21 PB0/ADDR8 (io), 22 PH0/PW1 (io), 23 PH1/PW2 (io), 24 PH2/PW3 (io), 25 PH3/PW4 (io), 26 PH4/CSIO (io), 27 PH5/CSGP1 (io), 28 PH6/CSGP2 (io), 29 PH7/CSPROG (io), 30 ~{XIRQ} (in), 31 VDD (power), 32 VSS (power), 33 PG7/R/~{W} (io), 34 PG6 (io), 35 PG5/XA18 (io), 36 PG4/XA17 (io), 37 PG3/XA16 (io), 38 PG2/XA15 (io), 39 PG1/XA14 (io), 40 PG0/XA13 (io), 41 AVDD (power), 42 PE7/AN7 (in), 43 PE6/AN6 (in), 44 PE5/AN5 (in), 45 PE4/AN4 (in), 46 PE3/AN3 (in), 47 PE2/AN2 (in), 48 PE1/AN1 (in), 49 PE0/AN0 (in), 50 VRL (in), 51 VRH (in), 52 AVSS (power), 53 PF7/ADDR7 (io), 54 PF6/ADDR6 (io), 55 PF5/ADDR5 (io), 56 PF4/ADDR4 (io), 57 PF3/ADDR3 (io), 58 PF2/ADDR2 (io), 59 PF1/ADDR1 (io), 60 PF0/ADDR0 (io), 61 ~{IRQ} (in), 62 PC0/DATA0 (io), 63 PC1/DATA1 (io), 64 PC2/DATA2 (io), 65 PC3/DATA3 (io), 66 PC4/DATA4 (io), 67 PC5/DATA5 (io), 68 PC6/DATA6 (io), 69 PC7/DATA7 (io), 70 VSS (power), 71 VDD (power), 72 E (out), 73 EXTAL, 74 XTAL, 75 ~{RESET} (io), 76 MODB/VSTBY (in), 77 MODA/~{LIR} (io), 78 PD0/RXD (io), 79 PD1/TXD (io), 80 PD2/MISO (io)

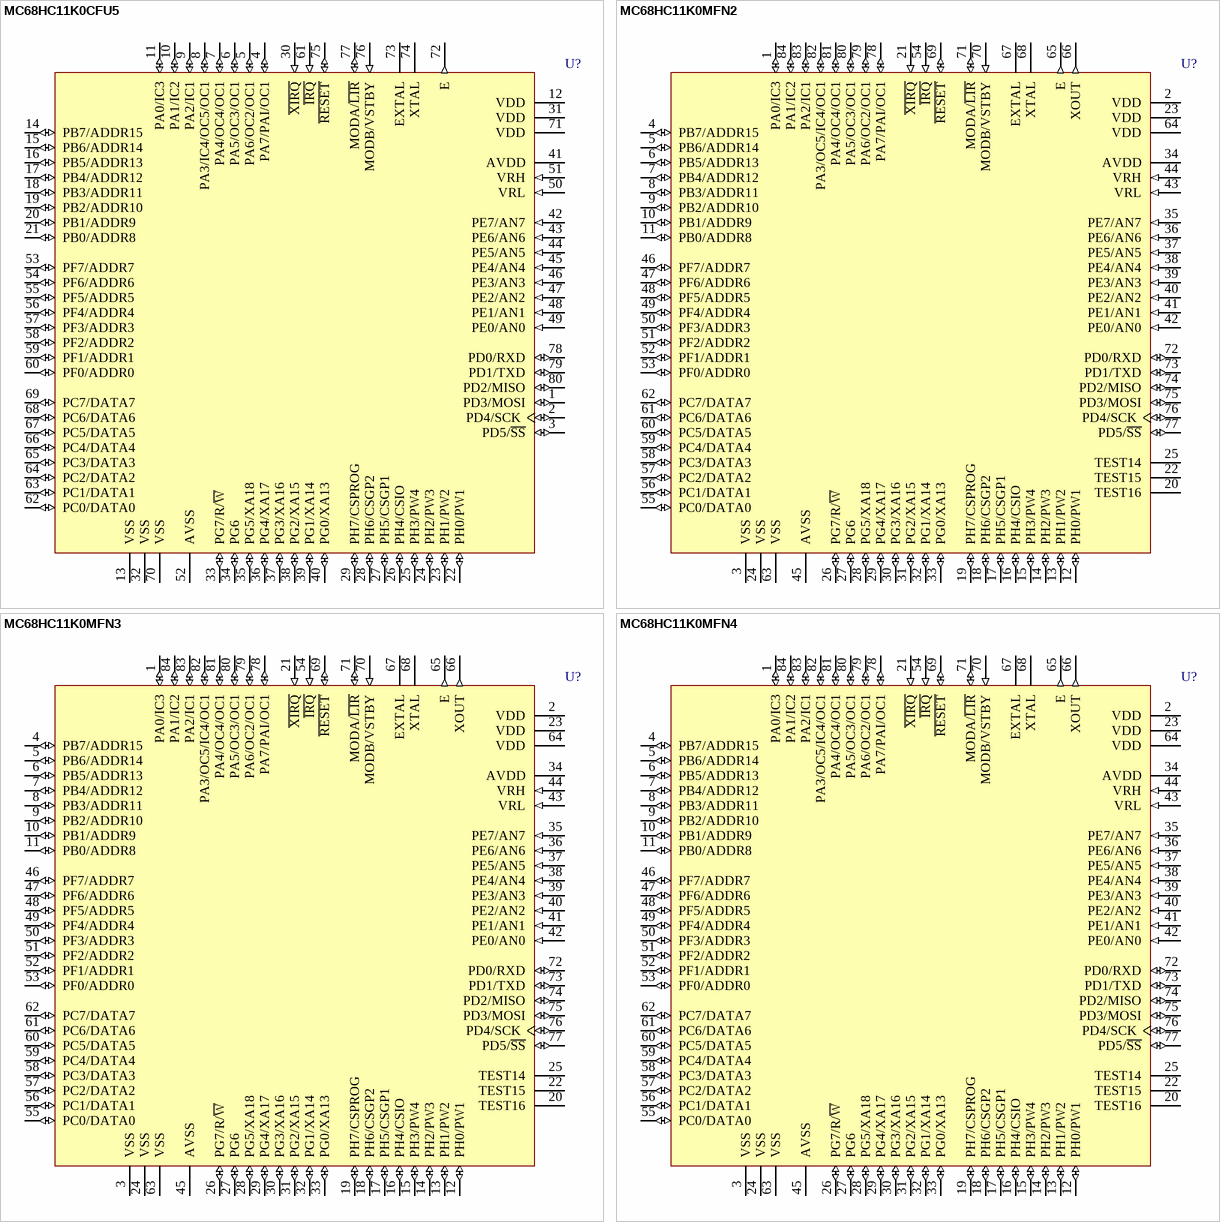
[diagram p38: symbols MC68HC11K0CFU5 to MC68HC11K0MFN4]

## MC68HC11K0CFU5
designator U?
8-Bit Microcontroller; Published: 17-Jan-2003; LatestRevisionDate: 13-Apr-2006; LatestRevisionNote: IPC-7351 Footprint Added.; DatasheetVersion: Nov-2001; PackageVersion: 2000; PackageReference: 841B; Publisher: Altium Limited; PackageDescription: 80-Pin Plastic Quad Flat Pack 0.65 mm Pitch; Code_IPC: QFP65P1720X1720-80; ComponentLink1Description: Manufacturer Link; ComponentLink1URL: http://www.freescale.com/
footprint 841B_N (QFP, 80-Leads, Body 14 x 14mm, Pitch 0.65mm, IPC Medium Density)
footprint 841B_L (QFP, 80-Leads, Body 14 x 14mm, Pitch 0.65mm, IPC High Density)
footprint 841B_M (QFP, 80-Leads, Body 14 x 14mm, Pitch 0.65mm, IPC Low Density)
3D model MC68HC11-841B (80-Pin Plastic Quad Flat Pack 0.65 mm Pitch)
pins: 1 PD3/MOSI (io), 2 PD4/SCK (io), 3 PD5/~{SS} (io), 4 PA7/PAI/OC1 (io), 5 PA6/OC2/OC1 (io), 6 PA5/OC3/OC1 (io), 7 PA4/OC4/OC1 (io), 8 PA3/IC4/OC5/OC1 (io), 9 PA2/IC1 (io), 10 PA1/IC2 (io), 11 PA0/IC3 (io), 12 VDD (power), 13 VSS (power), 14 PB7/ADDR15 (io), 15 PB6/ADDR14 (io), 16 PB5/ADDR13 (io), 17 PB4/ADDR12 (io), 18 PB3/ADDR11 (io), 19 PB2/ADDR10 (io), 20 PB1/ADDR9 (io), 21 PB0/ADDR8 (io), 22 PH0/PW1 (io), 23 PH1/PW2 (io), 24 PH2/PW3 (io), 25 PH3/PW4 (io), 26 PH4/CSIO (io), 27 PH5/CSGP1 (io), 28 PH6/CSGP2 (io), 29 PH7/CSPROG (io), 30 ~{XIRQ} (in), 31 VDD (power), 32 VSS (power), 33 PG7/R/~{W} (io), 34 PG6 (io), 35 PG5/XA18 (io), 36 PG4/XA17 (io), 37 PG3/XA16 (io), 38 PG2/XA15 (io), 39 PG1/XA14 (io), 40 PG0/XA13 (io), 41 AVDD (power), 42 PE7/AN7 (in), 43 PE6/AN6 (in), 44 PE5/AN5 (in), 45 PE4/AN4 (in), 46 PE3/AN3 (in), 47 PE2/AN2 (in), 48 PE1/AN1 (in), 49 PE0/AN0 (in), 50 VRL (in), 51 VRH (in), 52 AVSS (power), 53 PF7/ADDR7 (io), 54 PF6/ADDR6 (io), 55 PF5/ADDR5 (io), 56 PF4/ADDR4 (io), 57 PF3/ADDR3 (io), 58 PF2/ADDR2 (io), 59 PF1/ADDR1 (io), 60 PF0/ADDR0 (io), 61 ~{IRQ} (in), 62 PC0/DATA0 (io), 63 PC1/DATA1 (io), 64 PC2/DATA2 (io), 65 PC3/DATA3 (io), 66 PC4/DATA4 (io), 67 PC5/DATA5 (io), 68 PC6/DATA6 (io), 69 PC7/DATA7 (io), 70 VSS (power), 71 VDD (power), 72 E (out), 73 EXTAL, 74 XTAL, 75 ~{RESET} (io), 76 MODB/VSTBY (in), 77 MODA/~{LIR} (io), 78 PD0/RXD (io), 79 PD1/TXD (io), 80 PD2/MISO (io)

## MC68HC11K0MFN2
designator U?
8-Bit Microcontroller; Note: Pins 20, 22 and 25 are used only during factory testing. Do not connect to external circuitry.; Published: 17-Jan-2003; LatestRevisionDate: 13-Apr-2006; LatestRevisionNote: IPC-7351 Footprint Added.; DatasheetVersion: Nov-2001; PackageVersion: 2001; PackageReference: 780; Publisher: Altium Limited; PackageDescription: 84-Pin Plastic Leaded Chip Carrier 1.27 mm Pitch; Code_IPC: PLCC-84; ComponentLink1Description: Manufacturer Link; ComponentLink1URL: http://www.freescale.com/
footprint 780_N (Leaded Chip Carrier, 84-Leads, Body 29.3x29.3mm, Pitch 1.27mm, IPC Medium Density)
footprint 780_L (Leaded Chip Carrier, 84-Leads, Body 29.3x29.3mm, Pitch 1.27mm, IPC High Density)
footprint 780_M (Leaded Chip Carrier, 84-Leads, Body 29.3x29.3mm, Pitch 1.27mm, IPC Low Density)
3D model MC68HC11-780 (84-Pin Plastic Leaded Chip Carrier 1.27 mm Pitch)
pins: 1 PA0/IC3 (io), 2 VDD (power), 3 VSS (power), 4 PB7/ADDR15 (io), 5 PB6/ADDR14 (io), 6 PB5/ADDR13 (io), 7 PB4/ADDR12 (io), 8 PB3/ADDR11 (io), 9 PB2/ADDR10 (io), 10 PB1/ADDR9 (io), 11 PB0/ADDR8 (io), 12 PH0/PW1 (io), 13 PH1/PW2 (io), 14 PH2/PW3 (io), 15 PH3/PW4 (io), 16 PH4/CSIO (io), 17 PH5/CSGP1 (io), 18 PH6/CSGP2 (io), 19 PH7/CSPROG (io), 20 TEST16, 21 ~{XIRQ} (in), 22 TEST15, 23 VDD (power), 24 VSS (power), 25 TEST14, 26 PG7/R/~{W} (io), 27 PG6 (io), 28 PG5/XA18 (io), 29 PG4/XA17 (io), 30 PG3/XA16 (io), 31 PG2/XA15 (io), 32 PG1/XA14 (io), 33 PG0/XA13 (io), 34 AVDD (power), 35 PE7/AN7 (in), 36 PE6/AN6 (in), 37 PE5/AN5 (in), 38 PE4/AN4 (in), 39 PE3/AN3 (in), 40 PE2/AN2 (in), 41 PE1/AN1 (in), 42 PE0/AN0 (in), 43 VRL (in), 44 VRH (in), 45 AVSS (power), 46 PF7/ADDR7 (io), 47 PF6/ADDR6 (io), 48 PF5/ADDR5 (io), 49 PF4/ADDR4 (io), 50 PF3/ADDR3 (io), 51 PF2/ADDR2 (io), 52 PF1/ADDR1 (io), 53 PF0/ADDR0 (io), 54 ~{IRQ} (in), 55 PC0/DATA0 (io), 56 PC1/DATA1 (io), 57 PC2/DATA2 (io), 58 PC3/DATA3 (io), 59 PC4/DATA4 (io), 60 PC5/DATA5 (io), 61 PC6/DATA6 (io), 62 PC7/DATA7 (io), 63 VSS (power), 64 VDD (power), 65 E (out), 66 XOUT (out), 67 EXTAL, 68 XTAL, 69 ~{RESET} (io), 70 MODB/VSTBY (in), 71 MODA/~{LIR} (io), 72 PD0/RXD (io), 73 PD1/TXD (io), 74 PD2/MISO (io), 75 PD3/MOSI (io), 76 PD4/SCK (io), 77 PD5/~{SS} (io), 78 PA7/PAI/OC1 (io), 79 PA6/OC2/OC1 (io), 80 PA5/OC3/OC1 (io), 81 PA4/OC4/OC1 (io), 82 PA3/OC5/IC4/OC1 (io), 83 PA2/IC1 (io), 84 PA1/IC2 (io)

## MC68HC11K0MFN3
designator U?
8-Bit Microcontroller; Note: Pins 20, 22 and 25 are used only during factory testing. Do not connect to external circuitry.; Published: 17-Jan-2003; LatestRevisionDate: 13-Apr-2006; LatestRevisionNote: IPC-7351 Footprint Added.; DatasheetVersion: Nov-2001; PackageVersion: 2001; PackageReference: 780; Publisher: Altium Limited; PackageDescription: 84-Pin Plastic Leaded Chip Carrier 1.27 mm Pitch; Code_IPC: PLCC-84; ComponentLink1Description: Manufacturer Link; ComponentLink1URL: http://www.freescale.com/
footprint 780_N (Leaded Chip Carrier, 84-Leads, Body 29.3x29.3mm, Pitch 1.27mm, IPC Medium Density)
footprint 780_L (Leaded Chip Carrier, 84-Leads, Body 29.3x29.3mm, Pitch 1.27mm, IPC High Density)
footprint 780_M (Leaded Chip Carrier, 84-Leads, Body 29.3x29.3mm, Pitch 1.27mm, IPC Low Density)
3D model MC68HC11-780 (84-Pin Plastic Leaded Chip Carrier 1.27 mm Pitch)
pins: 1 PA0/IC3 (io), 2 VDD (power), 3 VSS (power), 4 PB7/ADDR15 (io), 5 PB6/ADDR14 (io), 6 PB5/ADDR13 (io), 7 PB4/ADDR12 (io), 8 PB3/ADDR11 (io), 9 PB2/ADDR10 (io), 10 PB1/ADDR9 (io), 11 PB0/ADDR8 (io), 12 PH0/PW1 (io), 13 PH1/PW2 (io), 14 PH2/PW3 (io), 15 PH3/PW4 (io), 16 PH4/CSIO (io), 17 PH5/CSGP1 (io), 18 PH6/CSGP2 (io), 19 PH7/CSPROG (io), 20 TEST16, 21 ~{XIRQ} (in), 22 TEST15, 23 VDD (power), 24 VSS (power), 25 TEST14, 26 PG7/R/~{W} (io), 27 PG6 (io), 28 PG5/XA18 (io), 29 PG4/XA17 (io), 30 PG3/XA16 (io), 31 PG2/XA15 (io), 32 PG1/XA14 (io), 33 PG0/XA13 (io), 34 AVDD (power), 35 PE7/AN7 (in), 36 PE6/AN6 (in), 37 PE5/AN5 (in), 38 PE4/AN4 (in), 39 PE3/AN3 (in), 40 PE2/AN2 (in), 41 PE1/AN1 (in), 42 PE0/AN0 (in), 43 VRL (in), 44 VRH (in), 45 AVSS (power), 46 PF7/ADDR7 (io), 47 PF6/ADDR6 (io), 48 PF5/ADDR5 (io), 49 PF4/ADDR4 (io), 50 PF3/ADDR3 (io), 51 PF2/ADDR2 (io), 52 PF1/ADDR1 (io), 53 PF0/ADDR0 (io), 54 ~{IRQ} (in), 55 PC0/DATA0 (io), 56 PC1/DATA1 (io), 57 PC2/DATA2 (io), 58 PC3/DATA3 (io), 59 PC4/DATA4 (io), 60 PC5/DATA5 (io), 61 PC6/DATA6 (io), 62 PC7/DATA7 (io), 63 VSS (power), 64 VDD (power), 65 E (out), 66 XOUT (out), 67 EXTAL, 68 XTAL, 69 ~{RESET} (io), 70 MODB/VSTBY (in), 71 MODA/~{LIR} (io), 72 PD0/RXD (io), 73 PD1/TXD (io), 74 PD2/MISO (io), 75 PD3/MOSI (io), 76 PD4/SCK (io), 77 PD5/~{SS} (io), 78 PA7/PAI/OC1 (io), 79 PA6/OC2/OC1 (io), 80 PA5/OC3/OC1 (io), 81 PA4/OC4/OC1 (io), 82 PA3/OC5/IC4/OC1 (io), 83 PA2/IC1 (io), 84 PA1/IC2 (io)

## MC68HC11K0MFN4
designator U?
8-Bit Microcontroller; Note: Pins 20, 22 and 25 are used only during factory testing. Do not connect to external circuitry.; Published: 17-Jan-2003; LatestRevisionDate: 13-Apr-2006; LatestRevisionNote: IPC-7351 Footprint Added.; DatasheetVersion: Nov-2001; PackageVersion: 2001; PackageReference: 780; Publisher: Altium Limited; PackageDescription: 84-Pin Plastic Leaded Chip Carrier 1.27 mm Pitch; Code_IPC: PLCC-84; ComponentLink1Description: Manufacturer Link; ComponentLink1URL: http://www.freescale.com/
footprint 780_N (Leaded Chip Carrier, 84-Leads, Body 29.3x29.3mm, Pitch 1.27mm, IPC Medium Density)
footprint 780_L (Leaded Chip Carrier, 84-Leads, Body 29.3x29.3mm, Pitch 1.27mm, IPC High Density)
footprint 780_M (Leaded Chip Carrier, 84-Leads, Body 29.3x29.3mm, Pitch 1.27mm, IPC Low Density)
3D model MC68HC11-780 (84-Pin Plastic Leaded Chip Carrier 1.27 mm Pitch)
pins: 1 PA0/IC3 (io), 2 VDD (power), 3 VSS (power), 4 PB7/ADDR15 (io), 5 PB6/ADDR14 (io), 6 PB5/ADDR13 (io), 7 PB4/ADDR12 (io), 8 PB3/ADDR11 (io), 9 PB2/ADDR10 (io), 10 PB1/ADDR9 (io), 11 PB0/ADDR8 (io), 12 PH0/PW1 (io), 13 PH1/PW2 (io), 14 PH2/PW3 (io), 15 PH3/PW4 (io), 16 PH4/CSIO (io), 17 PH5/CSGP1 (io), 18 PH6/CSGP2 (io), 19 PH7/CSPROG (io), 20 TEST16, 21 ~{XIRQ} (in), 22 TEST15, 23 VDD (power), 24 VSS (power), 25 TEST14, 26 PG7/R/~{W} (io), 27 PG6 (io), 28 PG5/XA18 (io), 29 PG4/XA17 (io), 30 PG3/XA16 (io), 31 PG2/XA15 (io), 32 PG1/XA14 (io), 33 PG0/XA13 (io), 34 AVDD (power), 35 PE7/AN7 (in), 36 PE6/AN6 (in), 37 PE5/AN5 (in), 38 PE4/AN4 (in), 39 PE3/AN3 (in), 40 PE2/AN2 (in), 41 PE1/AN1 (in), 42 PE0/AN0 (in), 43 VRL (in), 44 VRH (in), 45 AVSS (power), 46 PF7/ADDR7 (io), 47 PF6/ADDR6 (io), 48 PF5/ADDR5 (io), 49 PF4/ADDR4 (io), 50 PF3/ADDR3 (io), 51 PF2/ADDR2 (io), 52 PF1/ADDR1 (io), 53 PF0/ADDR0 (io), 54 ~{IRQ} (in), 55 PC0/DATA0 (io), 56 PC1/DATA1 (io), 57 PC2/DATA2 (io), 58 PC3/DATA3 (io), 59 PC4/DATA4 (io), 60 PC5/DATA5 (io), 61 PC6/DATA6 (io), 62 PC7/DATA7 (io), 63 VSS (power), 64 VDD (power), 65 E (out), 66 XOUT (out), 67 EXTAL, 68 XTAL, 69 ~{RESET} (io), 70 MODB/VSTBY (in), 71 MODA/~{LIR} (io), 72 PD0/RXD (io), 73 PD1/TXD (io), 74 PD2/MISO (io), 75 PD3/MOSI (io), 76 PD4/SCK (io), 77 PD5/~{SS} (io), 78 PA7/PAI/OC1 (io), 79 PA6/OC2/OC1 (io), 80 PA5/OC3/OC1 (io), 81 PA4/OC4/OC1 (io), 82 PA3/OC5/IC4/OC1 (io), 83 PA2/IC1 (io), 84 PA1/IC2 (io)

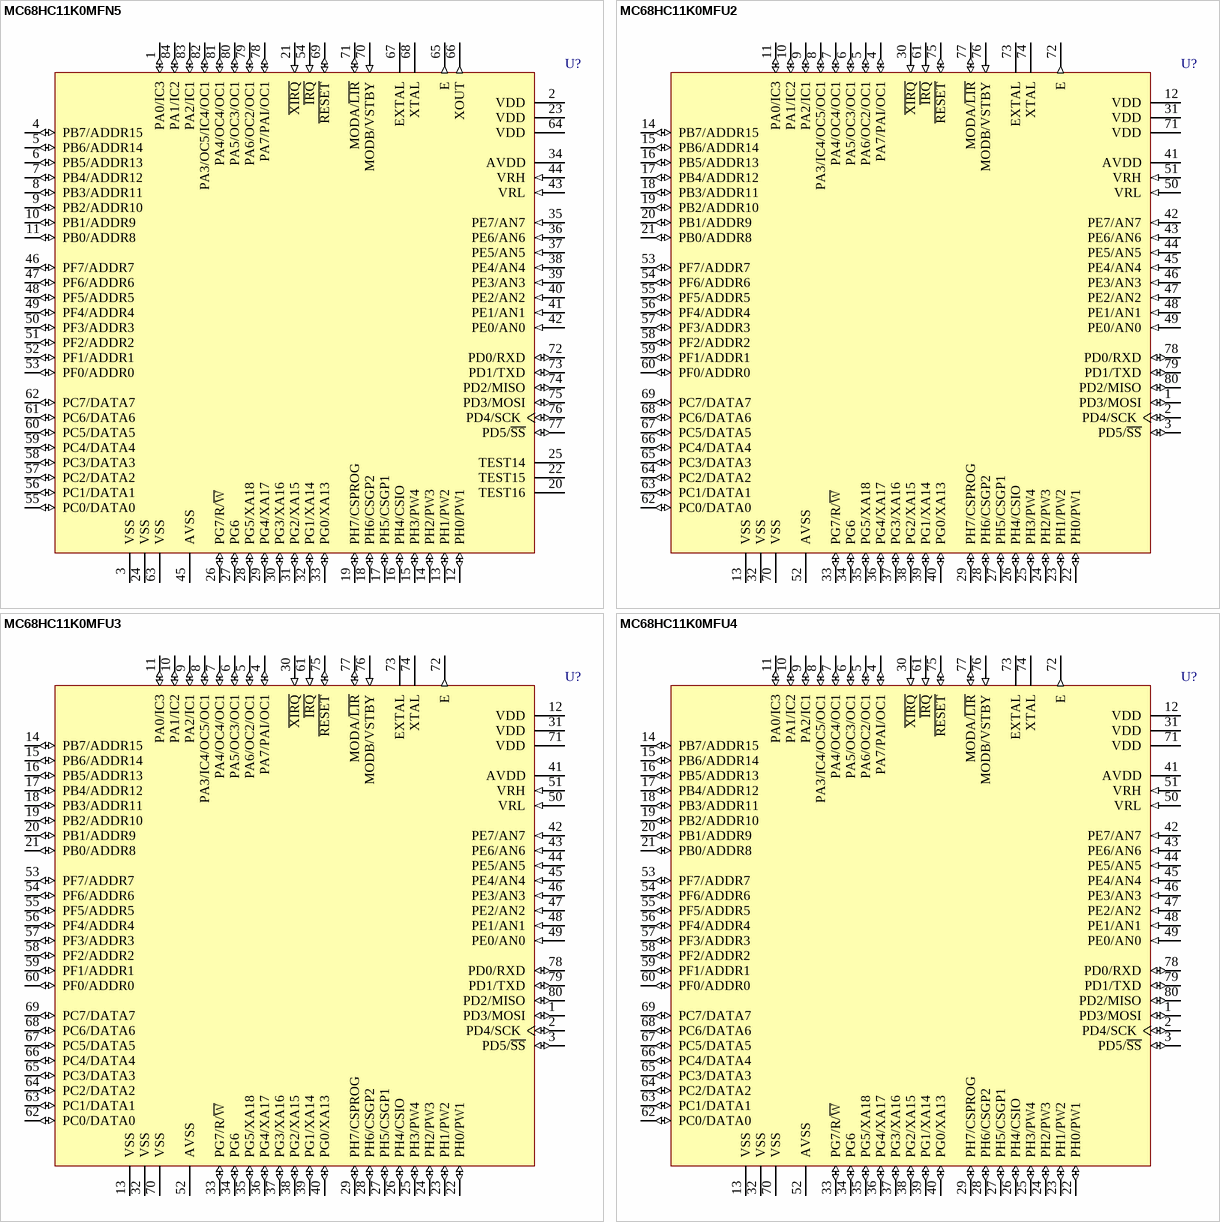
[diagram p39: symbols MC68HC11K0MFN5 to MC68HC11K0MFU4]

## MC68HC11K0MFN5
designator U?
8-Bit Microcontroller; Note: Pins 20, 22 and 25 are used only during factory testing. Do not connect to external circuitry.; Published: 17-Jan-2003; LatestRevisionDate: 13-Apr-2006; LatestRevisionNote: IPC-7351 Footprint Added.; DatasheetVersion: Nov-2001; PackageVersion: 2001; PackageReference: 780; Publisher: Altium Limited; PackageDescription: 84-Pin Plastic Leaded Chip Carrier 1.27 mm Pitch; Code_IPC: PLCC-84; ComponentLink1Description: Manufacturer Link; ComponentLink1URL: http://www.freescale.com/
footprint 780_N (Leaded Chip Carrier, 84-Leads, Body 29.3x29.3mm, Pitch 1.27mm, IPC Medium Density)
footprint 780_L (Leaded Chip Carrier, 84-Leads, Body 29.3x29.3mm, Pitch 1.27mm, IPC High Density)
footprint 780_M (Leaded Chip Carrier, 84-Leads, Body 29.3x29.3mm, Pitch 1.27mm, IPC Low Density)
3D model MC68HC11-780 (84-Pin Plastic Leaded Chip Carrier 1.27 mm Pitch)
pins: 1 PA0/IC3 (io), 2 VDD (power), 3 VSS (power), 4 PB7/ADDR15 (io), 5 PB6/ADDR14 (io), 6 PB5/ADDR13 (io), 7 PB4/ADDR12 (io), 8 PB3/ADDR11 (io), 9 PB2/ADDR10 (io), 10 PB1/ADDR9 (io), 11 PB0/ADDR8 (io), 12 PH0/PW1 (io), 13 PH1/PW2 (io), 14 PH2/PW3 (io), 15 PH3/PW4 (io), 16 PH4/CSIO (io), 17 PH5/CSGP1 (io), 18 PH6/CSGP2 (io), 19 PH7/CSPROG (io), 20 TEST16, 21 ~{XIRQ} (in), 22 TEST15, 23 VDD (power), 24 VSS (power), 25 TEST14, 26 PG7/R/~{W} (io), 27 PG6 (io), 28 PG5/XA18 (io), 29 PG4/XA17 (io), 30 PG3/XA16 (io), 31 PG2/XA15 (io), 32 PG1/XA14 (io), 33 PG0/XA13 (io), 34 AVDD (power), 35 PE7/AN7 (in), 36 PE6/AN6 (in), 37 PE5/AN5 (in), 38 PE4/AN4 (in), 39 PE3/AN3 (in), 40 PE2/AN2 (in), 41 PE1/AN1 (in), 42 PE0/AN0 (in), 43 VRL (in), 44 VRH (in), 45 AVSS (power), 46 PF7/ADDR7 (io), 47 PF6/ADDR6 (io), 48 PF5/ADDR5 (io), 49 PF4/ADDR4 (io), 50 PF3/ADDR3 (io), 51 PF2/ADDR2 (io), 52 PF1/ADDR1 (io), 53 PF0/ADDR0 (io), 54 ~{IRQ} (in), 55 PC0/DATA0 (io), 56 PC1/DATA1 (io), 57 PC2/DATA2 (io), 58 PC3/DATA3 (io), 59 PC4/DATA4 (io), 60 PC5/DATA5 (io), 61 PC6/DATA6 (io), 62 PC7/DATA7 (io), 63 VSS (power), 64 VDD (power), 65 E (out), 66 XOUT (out), 67 EXTAL, 68 XTAL, 69 ~{RESET} (io), 70 MODB/VSTBY (in), 71 MODA/~{LIR} (io), 72 PD0/RXD (io), 73 PD1/TXD (io), 74 PD2/MISO (io), 75 PD3/MOSI (io), 76 PD4/SCK (io), 77 PD5/~{SS} (io), 78 PA7/PAI/OC1 (io), 79 PA6/OC2/OC1 (io), 80 PA5/OC3/OC1 (io), 81 PA4/OC4/OC1 (io), 82 PA3/OC5/IC4/OC1 (io), 83 PA2/IC1 (io), 84 PA1/IC2 (io)

## MC68HC11K0MFU2
designator U?
8-Bit Microcontroller; Published: 17-Jan-2003; LatestRevisionDate: 13-Apr-2006; LatestRevisionNote: IPC-7351 Footprint Added.; DatasheetVersion: Nov-2001; PackageVersion: 2000; PackageReference: 841B; Publisher: Altium Limited; PackageDescription: 80-Pin Plastic Quad Flat Pack 0.65 mm Pitch; Code_IPC: QFP65P1720X1720-80; ComponentLink1Description: Manufacturer Link; ComponentLink1URL: http://www.freescale.com/
footprint 841B_N (QFP, 80-Leads, Body 14 x 14mm, Pitch 0.65mm, IPC Medium Density)
footprint 841B_L (QFP, 80-Leads, Body 14 x 14mm, Pitch 0.65mm, IPC High Density)
footprint 841B_M (QFP, 80-Leads, Body 14 x 14mm, Pitch 0.65mm, IPC Low Density)
3D model MC68HC11-841B (80-Pin Plastic Quad Flat Pack 0.65 mm Pitch)
pins: 1 PD3/MOSI (io), 2 PD4/SCK (io), 3 PD5/~{SS} (io), 4 PA7/PAI/OC1 (io), 5 PA6/OC2/OC1 (io), 6 PA5/OC3/OC1 (io), 7 PA4/OC4/OC1 (io), 8 PA3/IC4/OC5/OC1 (io), 9 PA2/IC1 (io), 10 PA1/IC2 (io), 11 PA0/IC3 (io), 12 VDD (power), 13 VSS (power), 14 PB7/ADDR15 (io), 15 PB6/ADDR14 (io), 16 PB5/ADDR13 (io), 17 PB4/ADDR12 (io), 18 PB3/ADDR11 (io), 19 PB2/ADDR10 (io), 20 PB1/ADDR9 (io), 21 PB0/ADDR8 (io), 22 PH0/PW1 (io), 23 PH1/PW2 (io), 24 PH2/PW3 (io), 25 PH3/PW4 (io), 26 PH4/CSIO (io), 27 PH5/CSGP1 (io), 28 PH6/CSGP2 (io), 29 PH7/CSPROG (io), 30 ~{XIRQ} (in), 31 VDD (power), 32 VSS (power), 33 PG7/R/~{W} (io), 34 PG6 (io), 35 PG5/XA18 (io), 36 PG4/XA17 (io), 37 PG3/XA16 (io), 38 PG2/XA15 (io), 39 PG1/XA14 (io), 40 PG0/XA13 (io), 41 AVDD (power), 42 PE7/AN7 (in), 43 PE6/AN6 (in), 44 PE5/AN5 (in), 45 PE4/AN4 (in), 46 PE3/AN3 (in), 47 PE2/AN2 (in), 48 PE1/AN1 (in), 49 PE0/AN0 (in), 50 VRL (in), 51 VRH (in), 52 AVSS (power), 53 PF7/ADDR7 (io), 54 PF6/ADDR6 (io), 55 PF5/ADDR5 (io), 56 PF4/ADDR4 (io), 57 PF3/ADDR3 (io), 58 PF2/ADDR2 (io), 59 PF1/ADDR1 (io), 60 PF0/ADDR0 (io), 61 ~{IRQ} (in), 62 PC0/DATA0 (io), 63 PC1/DATA1 (io), 64 PC2/DATA2 (io), 65 PC3/DATA3 (io), 66 PC4/DATA4 (io), 67 PC5/DATA5 (io), 68 PC6/DATA6 (io), 69 PC7/DATA7 (io), 70 VSS (power), 71 VDD (power), 72 E (out), 73 EXTAL, 74 XTAL, 75 ~{RESET} (io), 76 MODB/VSTBY (in), 77 MODA/~{LIR} (io), 78 PD0/RXD (io), 79 PD1/TXD (io), 80 PD2/MISO (io)

## MC68HC11K0MFU3
designator U?
8-Bit Microcontroller; Published: 17-Jan-2003; LatestRevisionDate: 13-Apr-2006; LatestRevisionNote: IPC-7351 Footprint Added.; DatasheetVersion: Nov-2001; PackageVersion: 2000; PackageReference: 841B; Publisher: Altium Limited; PackageDescription: 80-Pin Plastic Quad Flat Pack 0.65 mm Pitch; Code_IPC: QFP65P1720X1720-80; ComponentLink1Description: Manufacturer Link; ComponentLink1URL: http://www.freescale.com/
footprint 841B_N (QFP, 80-Leads, Body 14 x 14mm, Pitch 0.65mm, IPC Medium Density)
footprint 841B_L (QFP, 80-Leads, Body 14 x 14mm, Pitch 0.65mm, IPC High Density)
footprint 841B_M (QFP, 80-Leads, Body 14 x 14mm, Pitch 0.65mm, IPC Low Density)
3D model MC68HC11-841B (80-Pin Plastic Quad Flat Pack 0.65 mm Pitch)
pins: 1 PD3/MOSI (io), 2 PD4/SCK (io), 3 PD5/~{SS} (io), 4 PA7/PAI/OC1 (io), 5 PA6/OC2/OC1 (io), 6 PA5/OC3/OC1 (io), 7 PA4/OC4/OC1 (io), 8 PA3/IC4/OC5/OC1 (io), 9 PA2/IC1 (io), 10 PA1/IC2 (io), 11 PA0/IC3 (io), 12 VDD (power), 13 VSS (power), 14 PB7/ADDR15 (io), 15 PB6/ADDR14 (io), 16 PB5/ADDR13 (io), 17 PB4/ADDR12 (io), 18 PB3/ADDR11 (io), 19 PB2/ADDR10 (io), 20 PB1/ADDR9 (io), 21 PB0/ADDR8 (io), 22 PH0/PW1 (io), 23 PH1/PW2 (io), 24 PH2/PW3 (io), 25 PH3/PW4 (io), 26 PH4/CSIO (io), 27 PH5/CSGP1 (io), 28 PH6/CSGP2 (io), 29 PH7/CSPROG (io), 30 ~{XIRQ} (in), 31 VDD (power), 32 VSS (power), 33 PG7/R/~{W} (io), 34 PG6 (io), 35 PG5/XA18 (io), 36 PG4/XA17 (io), 37 PG3/XA16 (io), 38 PG2/XA15 (io), 39 PG1/XA14 (io), 40 PG0/XA13 (io), 41 AVDD (power), 42 PE7/AN7 (in), 43 PE6/AN6 (in), 44 PE5/AN5 (in), 45 PE4/AN4 (in), 46 PE3/AN3 (in), 47 PE2/AN2 (in), 48 PE1/AN1 (in), 49 PE0/AN0 (in), 50 VRL (in), 51 VRH (in), 52 AVSS (power), 53 PF7/ADDR7 (io), 54 PF6/ADDR6 (io), 55 PF5/ADDR5 (io), 56 PF4/ADDR4 (io), 57 PF3/ADDR3 (io), 58 PF2/ADDR2 (io), 59 PF1/ADDR1 (io), 60 PF0/ADDR0 (io), 61 ~{IRQ} (in), 62 PC0/DATA0 (io), 63 PC1/DATA1 (io), 64 PC2/DATA2 (io), 65 PC3/DATA3 (io), 66 PC4/DATA4 (io), 67 PC5/DATA5 (io), 68 PC6/DATA6 (io), 69 PC7/DATA7 (io), 70 VSS (power), 71 VDD (power), 72 E (out), 73 EXTAL, 74 XTAL, 75 ~{RESET} (io), 76 MODB/VSTBY (in), 77 MODA/~{LIR} (io), 78 PD0/RXD (io), 79 PD1/TXD (io), 80 PD2/MISO (io)

## MC68HC11K0MFU4
designator U?
8-Bit Microcontroller; Published: 17-Jan-2003; LatestRevisionDate: 13-Apr-2006; LatestRevisionNote: IPC-7351 Footprint Added.; DatasheetVersion: Nov-2001; PackageVersion: 2000; PackageReference: 841B; Publisher: Altium Limited; PackageDescription: 80-Pin Plastic Quad Flat Pack 0.65 mm Pitch; Code_IPC: QFP65P1720X1720-80; ComponentLink1Description: Manufacturer Link; ComponentLink1URL: http://www.freescale.com/
footprint 841B_N (QFP, 80-Leads, Body 14 x 14mm, Pitch 0.65mm, IPC Medium Density)
footprint 841B_L (QFP, 80-Leads, Body 14 x 14mm, Pitch 0.65mm, IPC High Density)
footprint 841B_M (QFP, 80-Leads, Body 14 x 14mm, Pitch 0.65mm, IPC Low Density)
3D model MC68HC11-841B (80-Pin Plastic Quad Flat Pack 0.65 mm Pitch)
pins: 1 PD3/MOSI (io), 2 PD4/SCK (io), 3 PD5/~{SS} (io), 4 PA7/PAI/OC1 (io), 5 PA6/OC2/OC1 (io), 6 PA5/OC3/OC1 (io), 7 PA4/OC4/OC1 (io), 8 PA3/IC4/OC5/OC1 (io), 9 PA2/IC1 (io), 10 PA1/IC2 (io), 11 PA0/IC3 (io), 12 VDD (power), 13 VSS (power), 14 PB7/ADDR15 (io), 15 PB6/ADDR14 (io), 16 PB5/ADDR13 (io), 17 PB4/ADDR12 (io), 18 PB3/ADDR11 (io), 19 PB2/ADDR10 (io), 20 PB1/ADDR9 (io), 21 PB0/ADDR8 (io), 22 PH0/PW1 (io), 23 PH1/PW2 (io), 24 PH2/PW3 (io), 25 PH3/PW4 (io), 26 PH4/CSIO (io), 27 PH5/CSGP1 (io), 28 PH6/CSGP2 (io), 29 PH7/CSPROG (io), 30 ~{XIRQ} (in), 31 VDD (power), 32 VSS (power), 33 PG7/R/~{W} (io), 34 PG6 (io), 35 PG5/XA18 (io), 36 PG4/XA17 (io), 37 PG3/XA16 (io), 38 PG2/XA15 (io), 39 PG1/XA14 (io), 40 PG0/XA13 (io), 41 AVDD (power), 42 PE7/AN7 (in), 43 PE6/AN6 (in), 44 PE5/AN5 (in), 45 PE4/AN4 (in), 46 PE3/AN3 (in), 47 PE2/AN2 (in), 48 PE1/AN1 (in), 49 PE0/AN0 (in), 50 VRL (in), 51 VRH (in), 52 AVSS (power), 53 PF7/ADDR7 (io), 54 PF6/ADDR6 (io), 55 PF5/ADDR5 (io), 56 PF4/ADDR4 (io), 57 PF3/ADDR3 (io), 58 PF2/ADDR2 (io), 59 PF1/ADDR1 (io), 60 PF0/ADDR0 (io), 61 ~{IRQ} (in), 62 PC0/DATA0 (io), 63 PC1/DATA1 (io), 64 PC2/DATA2 (io), 65 PC3/DATA3 (io), 66 PC4/DATA4 (io), 67 PC5/DATA5 (io), 68 PC6/DATA6 (io), 69 PC7/DATA7 (io), 70 VSS (power), 71 VDD (power), 72 E (out), 73 EXTAL, 74 XTAL, 75 ~{RESET} (io), 76 MODB/VSTBY (in), 77 MODA/~{LIR} (io), 78 PD0/RXD (io), 79 PD1/TXD (io), 80 PD2/MISO (io)

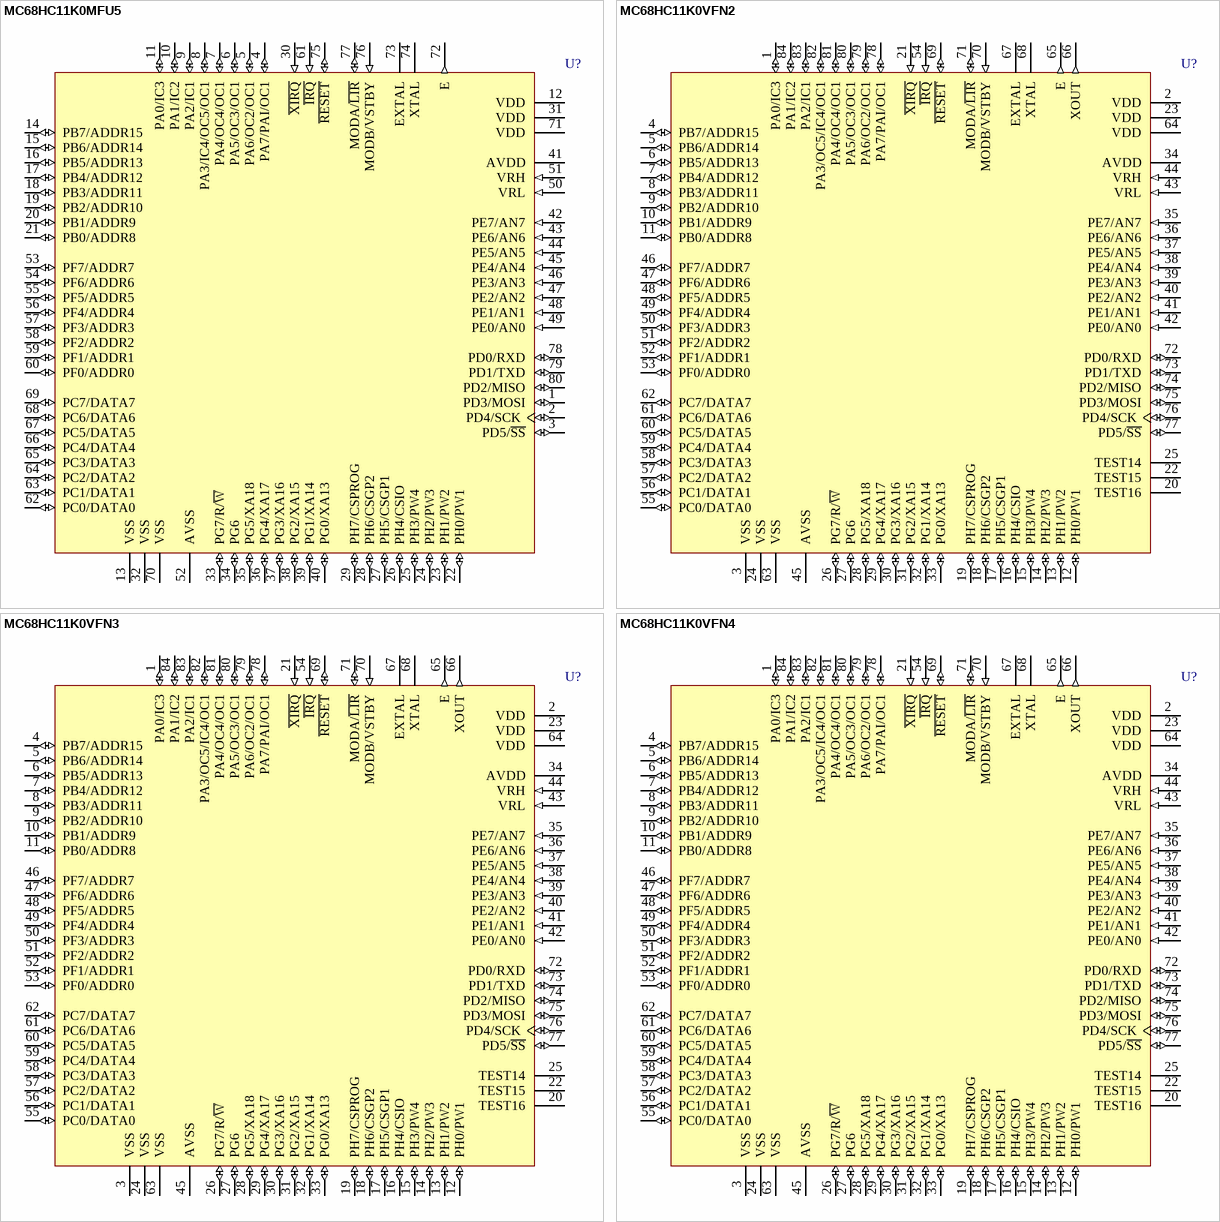
[diagram p40: symbols MC68HC11K0MFU5 to MC68HC11K0VFN4]

## MC68HC11K0MFU5
designator U?
8-Bit Microcontroller; Published: 17-Jan-2003; LatestRevisionDate: 13-Apr-2006; LatestRevisionNote: IPC-7351 Footprint Added.; DatasheetVersion: Nov-2001; PackageVersion: 2000; PackageReference: 841B; Publisher: Altium Limited; PackageDescription: 80-Pin Plastic Quad Flat Pack 0.65 mm Pitch; Code_IPC: QFP65P1720X1720-80; ComponentLink1Description: Manufacturer Link; ComponentLink1URL: http://www.freescale.com/
footprint 841B_N (QFP, 80-Leads, Body 14 x 14mm, Pitch 0.65mm, IPC Medium Density)
footprint 841B_L (QFP, 80-Leads, Body 14 x 14mm, Pitch 0.65mm, IPC High Density)
footprint 841B_M (QFP, 80-Leads, Body 14 x 14mm, Pitch 0.65mm, IPC Low Density)
3D model MC68HC11-841B (80-Pin Plastic Quad Flat Pack 0.65 mm Pitch)
pins: 1 PD3/MOSI (io), 2 PD4/SCK (io), 3 PD5/~{SS} (io), 4 PA7/PAI/OC1 (io), 5 PA6/OC2/OC1 (io), 6 PA5/OC3/OC1 (io), 7 PA4/OC4/OC1 (io), 8 PA3/IC4/OC5/OC1 (io), 9 PA2/IC1 (io), 10 PA1/IC2 (io), 11 PA0/IC3 (io), 12 VDD (power), 13 VSS (power), 14 PB7/ADDR15 (io), 15 PB6/ADDR14 (io), 16 PB5/ADDR13 (io), 17 PB4/ADDR12 (io), 18 PB3/ADDR11 (io), 19 PB2/ADDR10 (io), 20 PB1/ADDR9 (io), 21 PB0/ADDR8 (io), 22 PH0/PW1 (io), 23 PH1/PW2 (io), 24 PH2/PW3 (io), 25 PH3/PW4 (io), 26 PH4/CSIO (io), 27 PH5/CSGP1 (io), 28 PH6/CSGP2 (io), 29 PH7/CSPROG (io), 30 ~{XIRQ} (in), 31 VDD (power), 32 VSS (power), 33 PG7/R/~{W} (io), 34 PG6 (io), 35 PG5/XA18 (io), 36 PG4/XA17 (io), 37 PG3/XA16 (io), 38 PG2/XA15 (io), 39 PG1/XA14 (io), 40 PG0/XA13 (io), 41 AVDD (power), 42 PE7/AN7 (in), 43 PE6/AN6 (in), 44 PE5/AN5 (in), 45 PE4/AN4 (in), 46 PE3/AN3 (in), 47 PE2/AN2 (in), 48 PE1/AN1 (in), 49 PE0/AN0 (in), 50 VRL (in), 51 VRH (in), 52 AVSS (power), 53 PF7/ADDR7 (io), 54 PF6/ADDR6 (io), 55 PF5/ADDR5 (io), 56 PF4/ADDR4 (io), 57 PF3/ADDR3 (io), 58 PF2/ADDR2 (io), 59 PF1/ADDR1 (io), 60 PF0/ADDR0 (io), 61 ~{IRQ} (in), 62 PC0/DATA0 (io), 63 PC1/DATA1 (io), 64 PC2/DATA2 (io), 65 PC3/DATA3 (io), 66 PC4/DATA4 (io), 67 PC5/DATA5 (io), 68 PC6/DATA6 (io), 69 PC7/DATA7 (io), 70 VSS (power), 71 VDD (power), 72 E (out), 73 EXTAL, 74 XTAL, 75 ~{RESET} (io), 76 MODB/VSTBY (in), 77 MODA/~{LIR} (io), 78 PD0/RXD (io), 79 PD1/TXD (io), 80 PD2/MISO (io)

## MC68HC11K0VFN2
designator U?
8-Bit Microcontroller; Note: Pins 20, 22 and 25 are used only during factory testing. Do not connect to external circuitry.; Published: 17-Jan-2003; LatestRevisionDate: 13-Apr-2006; LatestRevisionNote: IPC-7351 Footprint Added.; DatasheetVersion: Nov-2001; PackageVersion: 2001; PackageReference: 780; Publisher: Altium Limited; PackageDescription: 84-Pin Plastic Leaded Chip Carrier 1.27 mm Pitch; Code_IPC: PLCC-84; ComponentLink1Description: Manufacturer Link; ComponentLink1URL: http://www.freescale.com/
footprint 780_N (Leaded Chip Carrier, 84-Leads, Body 29.3x29.3mm, Pitch 1.27mm, IPC Medium Density)
footprint 780_L (Leaded Chip Carrier, 84-Leads, Body 29.3x29.3mm, Pitch 1.27mm, IPC High Density)
footprint 780_M (Leaded Chip Carrier, 84-Leads, Body 29.3x29.3mm, Pitch 1.27mm, IPC Low Density)
3D model MC68HC11-780 (84-Pin Plastic Leaded Chip Carrier 1.27 mm Pitch)
pins: 1 PA0/IC3 (io), 2 VDD (power), 3 VSS (power), 4 PB7/ADDR15 (io), 5 PB6/ADDR14 (io), 6 PB5/ADDR13 (io), 7 PB4/ADDR12 (io), 8 PB3/ADDR11 (io), 9 PB2/ADDR10 (io), 10 PB1/ADDR9 (io), 11 PB0/ADDR8 (io), 12 PH0/PW1 (io), 13 PH1/PW2 (io), 14 PH2/PW3 (io), 15 PH3/PW4 (io), 16 PH4/CSIO (io), 17 PH5/CSGP1 (io), 18 PH6/CSGP2 (io), 19 PH7/CSPROG (io), 20 TEST16, 21 ~{XIRQ} (in), 22 TEST15, 23 VDD (power), 24 VSS (power), 25 TEST14, 26 PG7/R/~{W} (io), 27 PG6 (io), 28 PG5/XA18 (io), 29 PG4/XA17 (io), 30 PG3/XA16 (io), 31 PG2/XA15 (io), 32 PG1/XA14 (io), 33 PG0/XA13 (io), 34 AVDD (power), 35 PE7/AN7 (in), 36 PE6/AN6 (in), 37 PE5/AN5 (in), 38 PE4/AN4 (in), 39 PE3/AN3 (in), 40 PE2/AN2 (in), 41 PE1/AN1 (in), 42 PE0/AN0 (in), 43 VRL (in), 44 VRH (in), 45 AVSS (power), 46 PF7/ADDR7 (io), 47 PF6/ADDR6 (io), 48 PF5/ADDR5 (io), 49 PF4/ADDR4 (io), 50 PF3/ADDR3 (io), 51 PF2/ADDR2 (io), 52 PF1/ADDR1 (io), 53 PF0/ADDR0 (io), 54 ~{IRQ} (in), 55 PC0/DATA0 (io), 56 PC1/DATA1 (io), 57 PC2/DATA2 (io), 58 PC3/DATA3 (io), 59 PC4/DATA4 (io), 60 PC5/DATA5 (io), 61 PC6/DATA6 (io), 62 PC7/DATA7 (io), 63 VSS (power), 64 VDD (power), 65 E (out), 66 XOUT (out), 67 EXTAL, 68 XTAL, 69 ~{RESET} (io), 70 MODB/VSTBY (in), 71 MODA/~{LIR} (io), 72 PD0/RXD (io), 73 PD1/TXD (io), 74 PD2/MISO (io), 75 PD3/MOSI (io), 76 PD4/SCK (io), 77 PD5/~{SS} (io), 78 PA7/PAI/OC1 (io), 79 PA6/OC2/OC1 (io), 80 PA5/OC3/OC1 (io), 81 PA4/OC4/OC1 (io), 82 PA3/OC5/IC4/OC1 (io), 83 PA2/IC1 (io), 84 PA1/IC2 (io)